# Altium integrated library Freescale Semiconductor DSC.IntLib: 124 symbols (part 2 of 7)
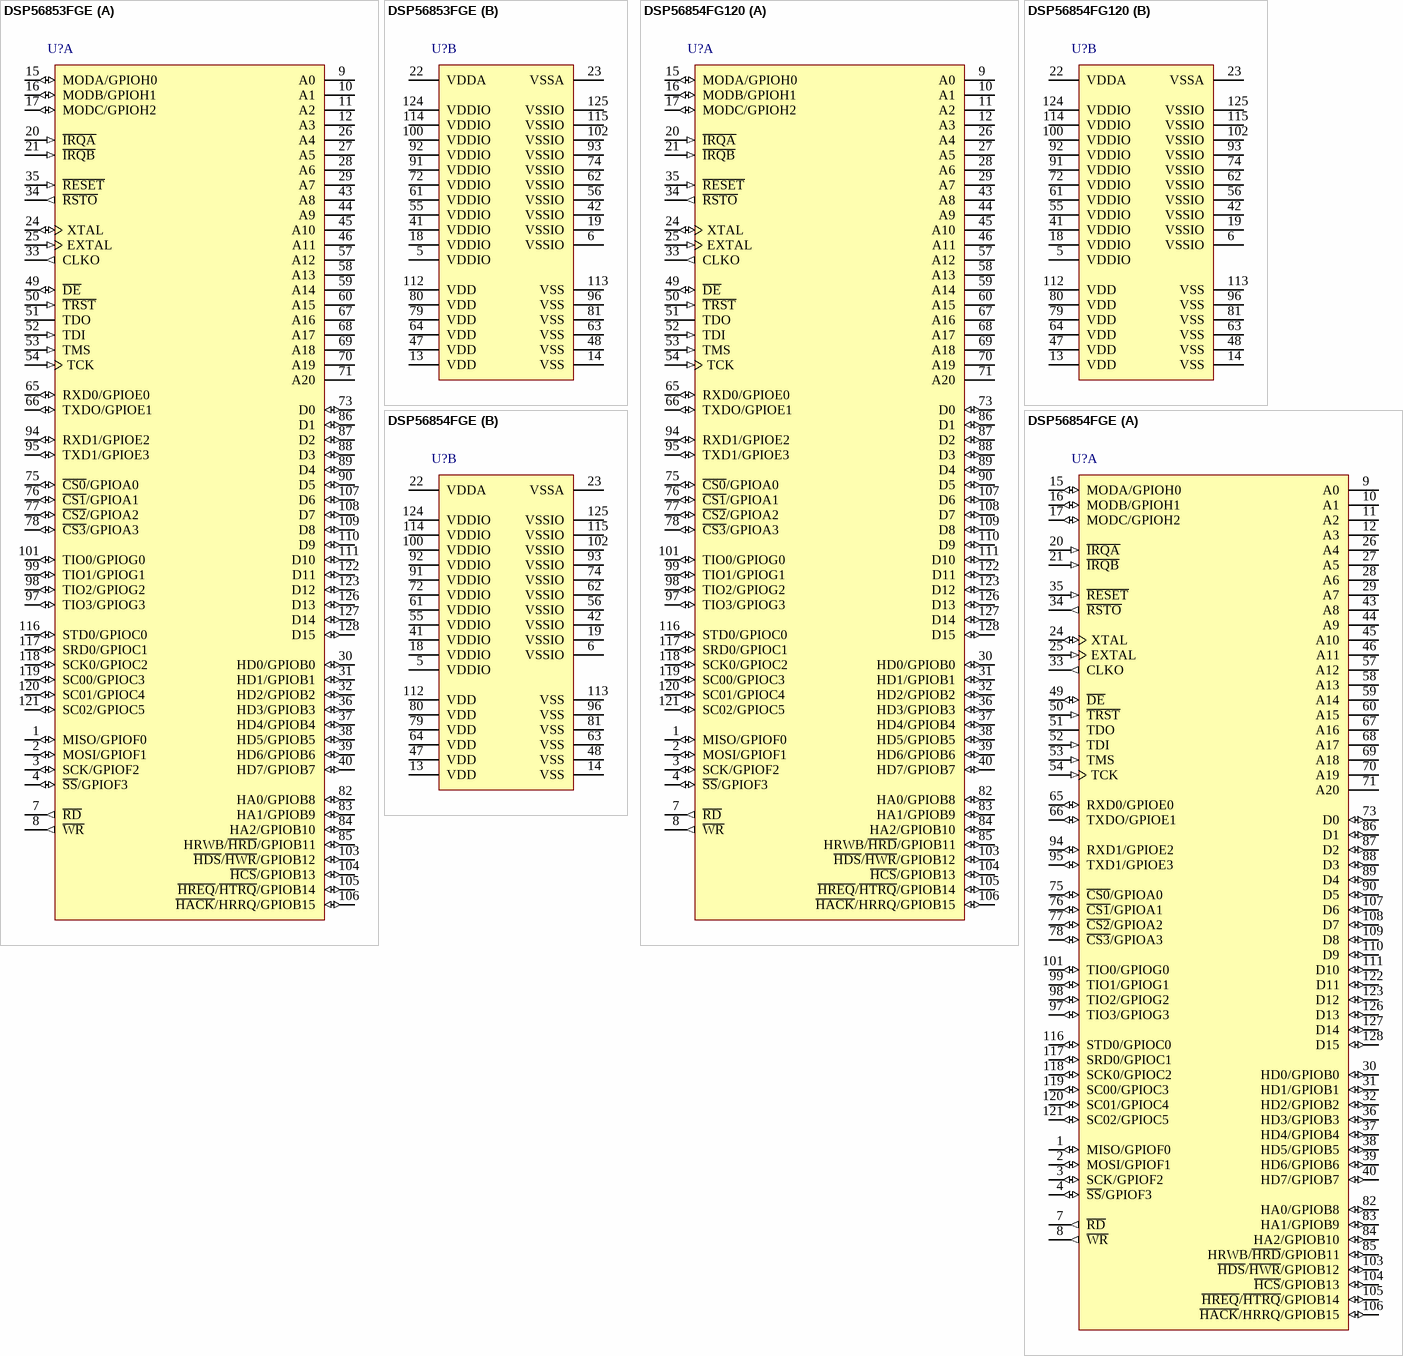
[diagram p35: symbols DSP56853FGE to DSP56854FGE]

## DSP56854FGE
designator U?
16-Bit Digital Signal Controller, 56800E Family, 120MHz, 16K Program SRAM, 16K Data SRAM, -40° to + 85°C, 128-Pin LQFP, ROHS; DatasheetVersion: rev6, Jan-2007; PackageVersion: 12/12/1994; PackageReference: 1129-01; PackageDescription: 128-Pin Thin Quad Flat Pack Rectangular 0.5 mm Pitch; ComponentLink1Description: Manufacturer URL; ComponentLink1URL: http://www.freescale.com/
footprint 1129-01_N (Thin QFP, 128-Leads, Body 20x14 mm, Pitch 0.5mm, IPC Medium Density)
footprint 1129-01_L (Thin QFP, 128-Leads, Body 20x14 mm, Pitch 0.5mm, IPC High Density)
footprint 1129-01_M (Thin QFP, 128-Leads, Body 20x14 mm, Pitch 0.5mm, IPC Low Density)
part A pins: 1 MISO/GPIOF0 (io), 2 MOSI/GPIOF1 (io), 3 SCK/GPIOF2 (io), 4 ~{SS}/GPIOF3 (io), 7 ~{RD} (out), 8 ~{WR} (out), 9 A0 (hiz), 10 A1 (hiz), 11 A2 (hiz), 12 A3 (hiz), 15 MODA/GPIOH0 (io), 16 MODB/GPIOH1 (io), 17 MODC/GPIOH2 (io), 20 ~{IRQA} (in), 21 ~{IRQB} (in), 24 XTAL (io), 25 EXTAL (in), 26 A4 (hiz), 27 A5 (hiz), 28 A6 (hiz), 29 A7 (hiz), 30 HD0/GPIOB0 (io), 31 HD1/GPIOB1 (io), 32 HD2/GPIOB2 (io), 33 CLKO (out), 34 ~{RSTO} (out), 35 ~{RESET} (in), 36 HD3/GPIOB3 (io), 37 HD4/GPIOB4 (io), 38 HD5/GPIOB5 (io), 39 HD6/GPIOB6 (io), 40 HD7/GPIOB7 (io), 43 A8 (hiz), 44 A9 (hiz), 45 A10 (hiz), 46 A11 (hiz), 49 ~{DE} (io), 50 ~{TRST} (in), 51 TDO (hiz), 52 TDI (in), 53 TMS (in), 54 TCK (in), 57 A12 (hiz), 58 A13 (hiz), 59 A14 (hiz), 60 A15 (hiz), 65 RXD0/GPIOE0 (io), 66 TXDO/GPIOE1 (io), 67 A16 (hiz), 68 A17 (hiz), 69 A18 (hiz), 70 A19 (hiz), 71 A20 (hiz), 73 D0 (io), 75 ~{CS0}/GPIOA0 (io), 76 ~{CS1}/GPIOA1 (io), 77 ~{CS2}/GPIOA2 (io), 78 ~{CS3}/GPIOA3 (io), 82 HA0/GPIOB8 (io), 83 HA1/GPIOB9 (io), 84 HA2/GPIOB10 (io), 85 HRWB/~{HRD}/GPIOB11 (io), 86 D1 (io), 87 D2 (io), 88 D3 (io), 89 D4 (io), 90 D5 (io), 94 RXD1/GPIOE2 (io), 95 TXD1/GPIOE3 (io), 97 TIO3/GPIOG3 (io), 98 TIO2/GPIOG2 (io), 99 TIO1/GPIOG1 (io), 101 TIO0/GPIOG0 (io), 103 ~{HDS}/~{HWR}/GPIOB12 (io), 104 ~{HCS}/GPIOB13 (io), 105 ~{HREQ}/~{HTRQ}/GPIOB14 (io), 106 ~{HACK}/HRRQ/GPIOB15 (io), 107 D6 (io), 108 D7 (io), 109 D8 (io), 110 D9 (io), 111 D10 (io), 116 STD0/GPIOC0 (io), 117 SRD0/GPIOC1 (io), 118 SCK0/GPIOC2 (io), 119 SC00/GPIOC3 (io), 120 SC01/GPIOC4 (io), 121 SC02/GPIOC5 (io), 122 D11 (io), 123 D12 (io), 126 D13 (io), 127 D14 (io), 128 D15 (io)
part B pins: 5 VDDIO (power), 6 VSSIO (power), 13 VDD (power), 14 VSS (power), 18 VDDIO (power), 19 VSSIO (power), 22 VDDA (power), 23 VSSA (power), 41 VDDIO (power), 42 VSSIO (power), 47 VDD (power), 48 VSS (power), 55 VDDIO (power), 56 VSSIO (power), 61 VDDIO (power), 62 VSSIO (power), 63 VSS (power), 64 VDD (power), 72 VDDIO (power), 74 VSSIO (power), 79 VDD (power), 80 VDD (power), 81 VSS (power), 91 VDDIO (power), 92 VDDIO (power), 93 VSSIO (power), 96 VSS (power), 100 VDDIO (power), 102 VSSIO (power), 112 VDD (power), 113 VSS (power), 114 VDDIO (power), 115 VSSIO (power), 124 VDDIO (power), 125 VSSIO (power)

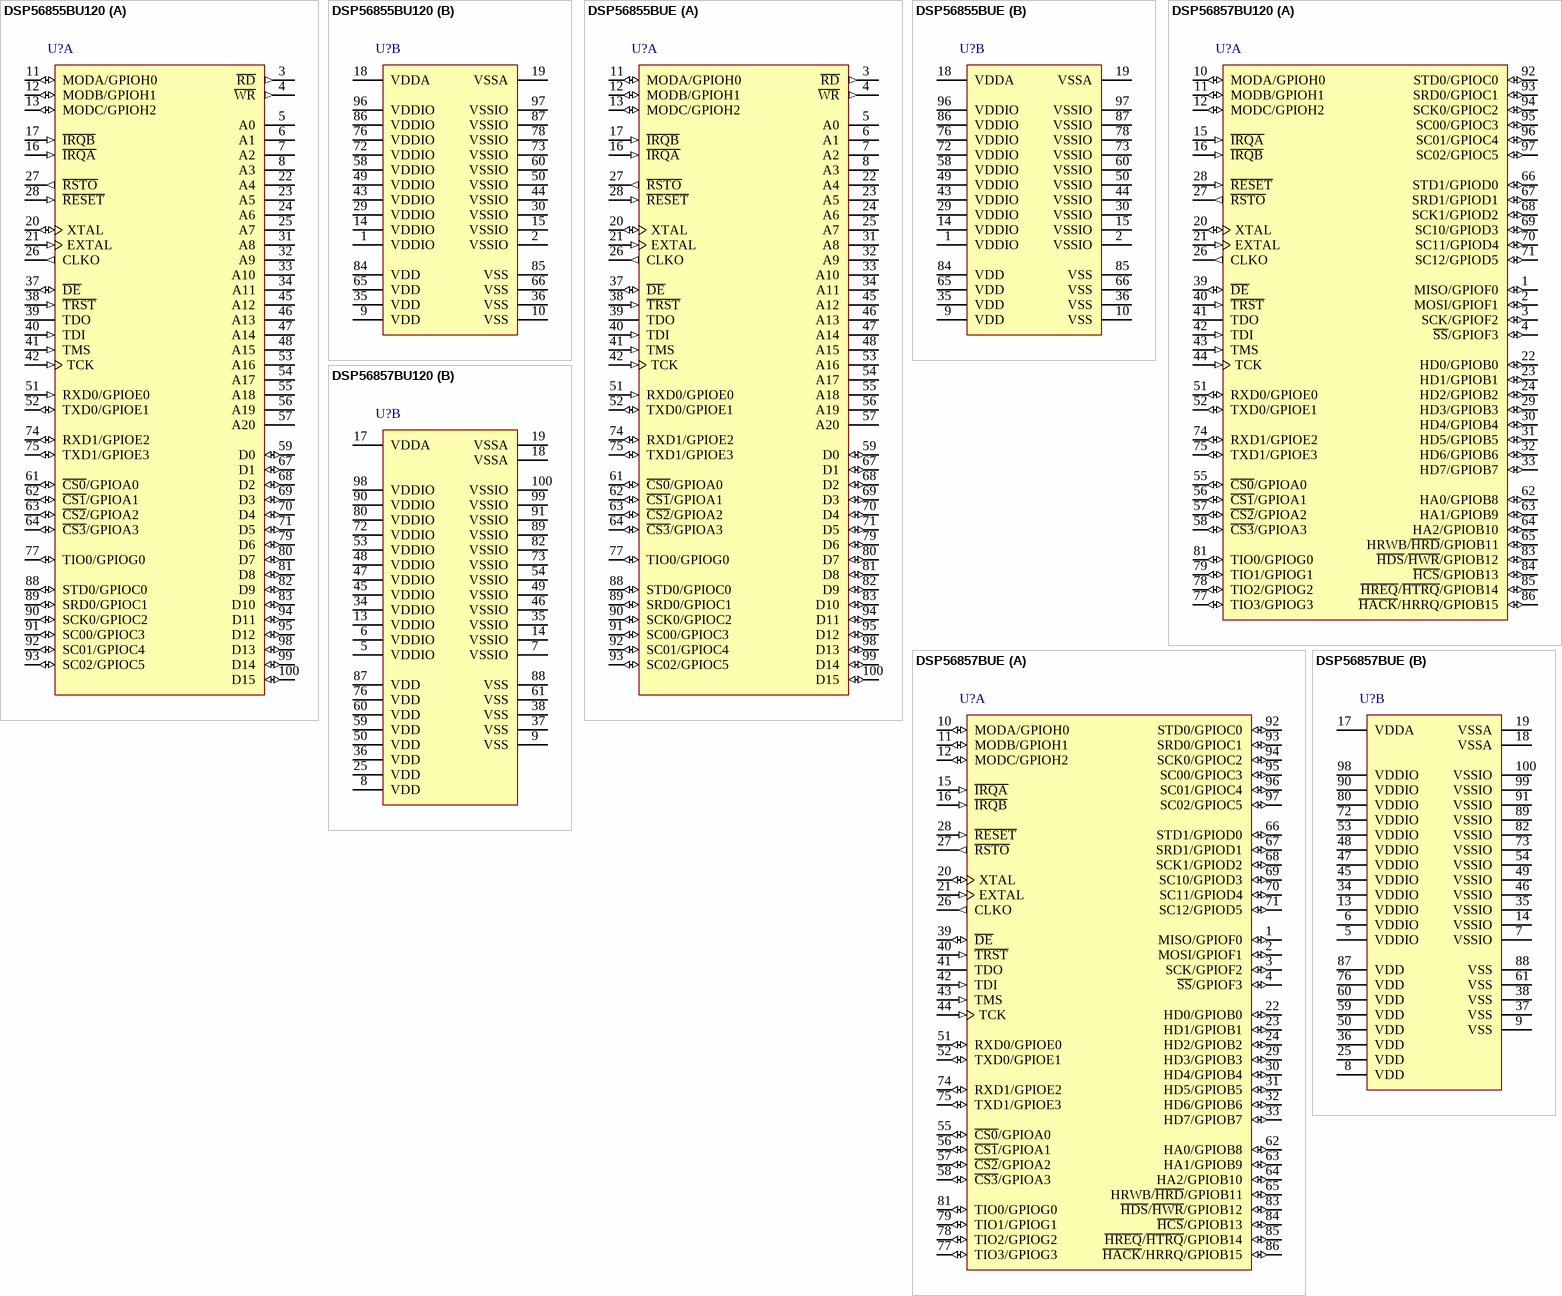
[diagram p6: symbols DSP56855BU120 to DSP56857BUE]

## DSP56855BU120
designator U?
16-Bit Digital Signal Controller, 56800E Family, 120MHz, 24K Program SRAM, 24K Data SRAM, -40° to + 85°C, 100-Pin LQFP; DatasheetVersion: rev6, Jan-2007; PackageVersion: rev4, Jan-2002; PackageReference: 842F-01; PackageDescription: 100-Pin Thin Quad Flat Pack 0.5 mm Pitch; ComponentLink1Description: Manufacturer URL; ComponentLink1URL: http://www.freescale.com/
footprint 842F-01_N (Thin QFP, 100-Leads, Body 14x14mm, Pitch 0.5mm, IPC Medium Density)
footprint 842F-01_L (Thin QFP, 100-Leads, Body 14x14mm, Pitch 0.5mm, IPC High Density)
footprint 842F-01_M (Thin QFP, 100-Leads, Body 14x14mm, Pitch 0.5mm, IPC Low Density)
part A pins: 3 ~{RD} (out), 4 ~{WR} (out), 5 A0 (hiz), 6 A1 (hiz), 7 A2 (hiz), 8 A3 (hiz), 11 MODA/GPIOH0 (io), 12 MODB/GPIOH1 (io), 13 MODC/GPIOH2 (io), 16 ~{IRQA} (in), 17 ~{IRQB} (in), 20 XTAL (io), 21 EXTAL (in), 22 A4 (hiz), 23 A5 (hiz), 24 A6 (hiz), 25 A7 (hiz), 26 CLKO (out), 27 ~{RSTO} (out), 28 ~{RESET} (in), 31 A8 (hiz), 32 A9 (hiz), 33 A10 (hiz), 34 A11 (hiz), 37 ~{DE} (io), 38 ~{TRST} (in), 39 TDO (hiz), 40 TDI (in), 41 TMS (in), 42 TCK (in), 45 A12 (hiz), 46 A13 (hiz), 47 A14 (hiz), 48 A15 (hiz), 51 RXD0/GPIOE0 (in), 52 TXD0/GPIOE1 (io), 53 A16 (hiz), 54 A17 (hiz), 55 A18 (hiz), 56 A19 (hiz), 57 A20 (hiz), 59 D0 (io), 61 ~{CS0}/GPIOA0 (io), 62 ~{CS1}/GPIOA1 (io), 63 ~{CS2}/GPIOA2 (io), 64 ~{CS3}/GPIOA3 (io), 67 D1 (io), 68 D2 (io), 69 D3 (io), 70 D4 (io), 71 D5 (io), 74 RXD1/GPIOE2 (io), 75 TXD1/GPIOE3 (io), 77 TIO0/GPIOG0 (io), 79 D6 (io), 80 D7 (io), 81 D8 (io), 82 D9 (io), 83 D10 (io), 88 STD0/GPIOC0 (io), 89 SRD0/GPIOC1 (io), 90 SCK0/GPIOC2 (io), 91 SC00/GPIOC3 (io), 92 SC01/GPIOC4 (io), 93 SC02/GPIOC5 (io), 94 D11 (io), 95 D12 (io), 98 D13 (io), 99 D14 (io), 100 D15 (io)
part B pins: 1 VDDIO (power), 2 VSSIO (power), 9 VDD (power), 10 VSS (power), 14 VDDIO (power), 15 VSSIO (power), 18 VDDA (power), 19 VSSA (power), 29 VDDIO (power), 30 VSSIO (power), 35 VDD (power), 36 VSS (power), 43 VDDIO (power), 44 VSSIO (power), 49 VDDIO (power), 50 VSSIO (power), 58 VDDIO (power), 60 VSSIO (power), 65 VDD (power), 66 VSS (power), 72 VDDIO (power), 73 VSSIO (power), 76 VDDIO (power), 78 VSSIO (power), 84 VDD (power), 85 VSS (power), 86 VDDIO (power), 87 VSSIO (power), 96 VDDIO (power), 97 VSSIO (power)

## DSP56855BUE
designator U?
16-Bit Digital Signal Controller, 56800E Family, 120MHz, 24K Program SRAM, 24K Data SRAM, -40° to + 85°C, 100-Pin LQFP, ROHS; DatasheetVersion: rev6, Jan-2007; PackageVersion: rev4, Jan-2002; PackageReference: 842F-01; PackageDescription: 100-Pin Thin Quad Flat Pack 0.5 mm Pitch; ComponentLink1Description: Manufacturer URL; ComponentLink1URL: http://www.freescale.com/
footprint 842F-01_N (Thin QFP, 100-Leads, Body 14x14mm, Pitch 0.5mm, IPC Medium Density)
footprint 842F-01_L (Thin QFP, 100-Leads, Body 14x14mm, Pitch 0.5mm, IPC High Density)
footprint 842F-01_M (Thin QFP, 100-Leads, Body 14x14mm, Pitch 0.5mm, IPC Low Density)
part A pins: 3 ~{RD} (out), 4 ~{WR} (out), 5 A0 (hiz), 6 A1 (hiz), 7 A2 (hiz), 8 A3 (hiz), 11 MODA/GPIOH0 (io), 12 MODB/GPIOH1 (io), 13 MODC/GPIOH2 (io), 16 ~{IRQA} (in), 17 ~{IRQB} (in), 20 XTAL (io), 21 EXTAL (in), 22 A4 (hiz), 23 A5 (hiz), 24 A6 (hiz), 25 A7 (hiz), 26 CLKO (out), 27 ~{RSTO} (out), 28 ~{RESET} (in), 31 A8 (hiz), 32 A9 (hiz), 33 A10 (hiz), 34 A11 (hiz), 37 ~{DE} (io), 38 ~{TRST} (in), 39 TDO (hiz), 40 TDI (in), 41 TMS (in), 42 TCK (in), 45 A12 (hiz), 46 A13 (hiz), 47 A14 (hiz), 48 A15 (hiz), 51 RXD0/GPIOE0 (in), 52 TXD0/GPIOE1 (io), 53 A16 (hiz), 54 A17 (hiz), 55 A18 (hiz), 56 A19 (hiz), 57 A20 (hiz), 59 D0 (io), 61 ~{CS0}/GPIOA0 (io), 62 ~{CS1}/GPIOA1 (io), 63 ~{CS2}/GPIOA2 (io), 64 ~{CS3}/GPIOA3 (io), 67 D1 (io), 68 D2 (io), 69 D3 (io), 70 D4 (io), 71 D5 (io), 74 RXD1/GPIOE2 (io), 75 TXD1/GPIOE3 (io), 77 TIO0/GPIOG0 (io), 79 D6 (io), 80 D7 (io), 81 D8 (io), 82 D9 (io), 83 D10 (io), 88 STD0/GPIOC0 (io), 89 SRD0/GPIOC1 (io), 90 SCK0/GPIOC2 (io), 91 SC00/GPIOC3 (io), 92 SC01/GPIOC4 (io), 93 SC02/GPIOC5 (io), 94 D11 (io), 95 D12 (io), 98 D13 (io), 99 D14 (io), 100 D15 (io)
part B pins: 1 VDDIO (power), 2 VSSIO (power), 9 VDD (power), 10 VSS (power), 14 VDDIO (power), 15 VSSIO (power), 18 VDDA (power), 19 VSSA (power), 29 VDDIO (power), 30 VSSIO (power), 35 VDD (power), 36 VSS (power), 43 VDDIO (power), 44 VSSIO (power), 49 VDDIO (power), 50 VSSIO (power), 58 VDDIO (power), 60 VSSIO (power), 65 VDD (power), 66 VSS (power), 72 VDDIO (power), 73 VSSIO (power), 76 VDDIO (power), 78 VSSIO (power), 84 VDD (power), 85 VSS (power), 86 VDDIO (power), 87 VSSIO (power), 96 VDDIO (power), 97 VSSIO (power)

## DSP56857BU120
designator U?
16-Bit Digital Signal Controller, 56800E Family, 120MHz, 40K Program SRAM, 24K Data SRAM, -40° to + 85°C, 100-Pin LQFP; DatasheetVersion: rev6, Jan-2007; PackageVersion: rev4, Jan-2002; PackageReference: 842F-01; PackageDescription: 100-Pin Thin Quad Flat Pack 0.5 mm Pitch; ComponentLink1Description: Manufacturer URL; ComponentLink1URL: http://www.freescale.com/
footprint 842F-01_N (Thin QFP, 100-Leads, Body 14x14mm, Pitch 0.5mm, IPC Medium Density)
footprint 842F-01_L (Thin QFP, 100-Leads, Body 14x14mm, Pitch 0.5mm, IPC High Density)
footprint 842F-01_M (Thin QFP, 100-Leads, Body 14x14mm, Pitch 0.5mm, IPC Low Density)
part A pins: 1 MISO/GPIOF0 (io), 2 MOSI/GPIOF1 (io), 3 SCK/GPIOF2 (io), 4 ~{SS}/GPIOF3 (io), 10 MODA/GPIOH0 (io), 11 MODB/GPIOH1 (io), 12 MODC/GPIOH2 (io), 15 ~{IRQA} (in), 16 ~{IRQB} (in), 20 XTAL (io), 21 EXTAL (in), 22 HD0/GPIOB0 (io), 23 HD1/GPIOB1 (io), 24 HD2/GPIOB2 (io), 26 CLKO (out), 27 ~{RSTO} (out), 28 ~{RESET} (in), 29 HD3/GPIOB3 (io), 30 HD4/GPIOB4 (io), 31 HD5/GPIOB5 (io), 32 HD6/GPIOB6 (io), 33 HD7/GPIOB7 (io), 39 ~{DE} (io), 40 ~{TRST} (in), 41 TDO (hiz), 42 TDI (in), 43 TMS (in), 44 TCK (in), 51 RXD0/GPIOE0 (io), 52 TXD0/GPIOE1 (io), 55 ~{CS0}/GPIOA0 (io), 56 ~{CS1}/GPIOA1 (io), 57 ~{CS2}/GPIOA2 (io), 58 ~{CS3}/GPIOA3 (io), 62 HA0/GPIOB8 (io), 63 HA1/GPIOB9 (io), 64 HA2/GPIOB10 (io), 65 HRWB/~{HRD}/GPIOB11 (io), 66 STD1/GPIOD0 (io), 67 SRD1/GPIOD1 (io), 68 SCK1/GPIOD2 (io), 69 SC10/GPIOD3 (io), 70 SC11/GPIOD4 (io), 71 SC12/GPIOD5 (io), 74 RXD1/GPIOE2 (io), 75 TXD1/GPIOE3 (io), 77 TIO3/GPIOG3 (io), 78 TIO2/GPIOG2 (io), 79 TIO1/GPIOG1 (io), 81 TIO0/GPIOG0 (io), 83 ~{HDS}/~{HWR}/GPIOB12 (io), 84 ~{HCS}/GPIOB13 (io), 85 ~{HREQ}/~{HTRQ}/GPIOB14 (io), 86 ~{HACK}/HRRQ/GPIOB15 (io), 92 STD0/GPIOC0 (io), 93 SRD0/GPIOC1 (io), 94 SCK0/GPIOC2 (io), 95 SC00/GPIOC3 (io), 96 SC01/GPIOC4 (io), 97 SC02/GPIOC5 (io)
part B pins: 5 VDDIO (power), 6 VDDIO (power), 7 VSSIO (power), 8 VDD (power), 9 VSS (power), 13 VDDIO (power), 14 VSSIO (power), 17 VDDA (power), 18 VSSA (power), 19 VSSA (power), 25 VDD (power), 34 VDDIO (power), 35 VSSIO (power), 36 VDD (power), 37 VSS (power), 38 VSS (power), 45 VDDIO (power), 46 VSSIO (power), 47 VDDIO (power), 48 VDDIO (power), 49 VSSIO (power), 50 VDD (power), 53 VDDIO (power), 54 VSSIO (power), 59 VDD (power), 60 VDD (power), 61 VSS (power), 72 VDDIO (power), 73 VSSIO (power), 76 VDD (power), 80 VDDIO (power), 82 VSSIO (power), 87 VDD (power), 88 VSS (power), 89 VSSIO (power), 90 VDDIO (power), 91 VSSIO (power), 98 VDDIO (power), 99 VSSIO (power), 100 VSSIO (power)

## DSP56857BUE
designator U?
16-Bit Digital Signal Controller, 56800E Family, 120MHz, 40K Program SRAM, 24K Data SRAM, -40° to + 85°C, 100-Pin LQFP, ROHS; DatasheetVersion: rev6, Jan-2007; PackageVersion: rev4, Jan-2002; PackageReference: 842F-01; PackageDescription: 100-Pin Thin Quad Flat Pack 0.5 mm Pitch; ComponentLink1Description: Manufacturer URL; ComponentLink1URL: http://www.freescale.com/
footprint 842F-01_N (Thin QFP, 100-Leads, Body 14x14mm, Pitch 0.5mm, IPC Medium Density)
footprint 842F-01_L (Thin QFP, 100-Leads, Body 14x14mm, Pitch 0.5mm, IPC High Density)
footprint 842F-01_M (Thin QFP, 100-Leads, Body 14x14mm, Pitch 0.5mm, IPC Low Density)
part A pins: 1 MISO/GPIOF0 (io), 2 MOSI/GPIOF1 (io), 3 SCK/GPIOF2 (io), 4 ~{SS}/GPIOF3 (io), 10 MODA/GPIOH0 (io), 11 MODB/GPIOH1 (io), 12 MODC/GPIOH2 (io), 15 ~{IRQA} (in), 16 ~{IRQB} (in), 20 XTAL (io), 21 EXTAL (in), 22 HD0/GPIOB0 (io), 23 HD1/GPIOB1 (io), 24 HD2/GPIOB2 (io), 26 CLKO (out), 27 ~{RSTO} (out), 28 ~{RESET} (in), 29 HD3/GPIOB3 (io), 30 HD4/GPIOB4 (io), 31 HD5/GPIOB5 (io), 32 HD6/GPIOB6 (io), 33 HD7/GPIOB7 (io), 39 ~{DE} (io), 40 ~{TRST} (in), 41 TDO (hiz), 42 TDI (in), 43 TMS (in), 44 TCK (in), 51 RXD0/GPIOE0 (io), 52 TXD0/GPIOE1 (io), 55 ~{CS0}/GPIOA0 (io), 56 ~{CS1}/GPIOA1 (io), 57 ~{CS2}/GPIOA2 (io), 58 ~{CS3}/GPIOA3 (io), 62 HA0/GPIOB8 (io), 63 HA1/GPIOB9 (io), 64 HA2/GPIOB10 (io), 65 HRWB/~{HRD}/GPIOB11 (io), 66 STD1/GPIOD0 (io), 67 SRD1/GPIOD1 (io), 68 SCK1/GPIOD2 (io), 69 SC10/GPIOD3 (io), 70 SC11/GPIOD4 (io), 71 SC12/GPIOD5 (io), 74 RXD1/GPIOE2 (io), 75 TXD1/GPIOE3 (io), 77 TIO3/GPIOG3 (io), 78 TIO2/GPIOG2 (io), 79 TIO1/GPIOG1 (io), 81 TIO0/GPIOG0 (io), 83 ~{HDS}/~{HWR}/GPIOB12 (io), 84 ~{HCS}/GPIOB13 (io), 85 ~{HREQ}/~{HTRQ}/GPIOB14 (io), 86 ~{HACK}/HRRQ/GPIOB15 (io), 92 STD0/GPIOC0 (io), 93 SRD0/GPIOC1 (io), 94 SCK0/GPIOC2 (io), 95 SC00/GPIOC3 (io), 96 SC01/GPIOC4 (io), 97 SC02/GPIOC5 (io)
part B pins: 5 VDDIO (power), 6 VDDIO (power), 7 VSSIO (power), 8 VDD (power), 9 VSS (power), 13 VDDIO (power), 14 VSSIO (power), 17 VDDA (power), 18 VSSA (power), 19 VSSA (power), 25 VDD (power), 34 VDDIO (power), 35 VSSIO (power), 36 VDD (power), 37 VSS (power), 38 VSS (power), 45 VDDIO (power), 46 VSSIO (power), 47 VDDIO (power), 48 VDDIO (power), 49 VSSIO (power), 50 VDD (power), 53 VDDIO (power), 54 VSSIO (power), 59 VDD (power), 60 VDD (power), 61 VSS (power), 72 VDDIO (power), 73 VSSIO (power), 76 VDD (power), 80 VDDIO (power), 82 VSSIO (power), 87 VDD (power), 88 VSS (power), 89 VSSIO (power), 90 VDDIO (power), 91 VSSIO (power), 98 VDDIO (power), 99 VSSIO (power), 100 VSSIO (power)

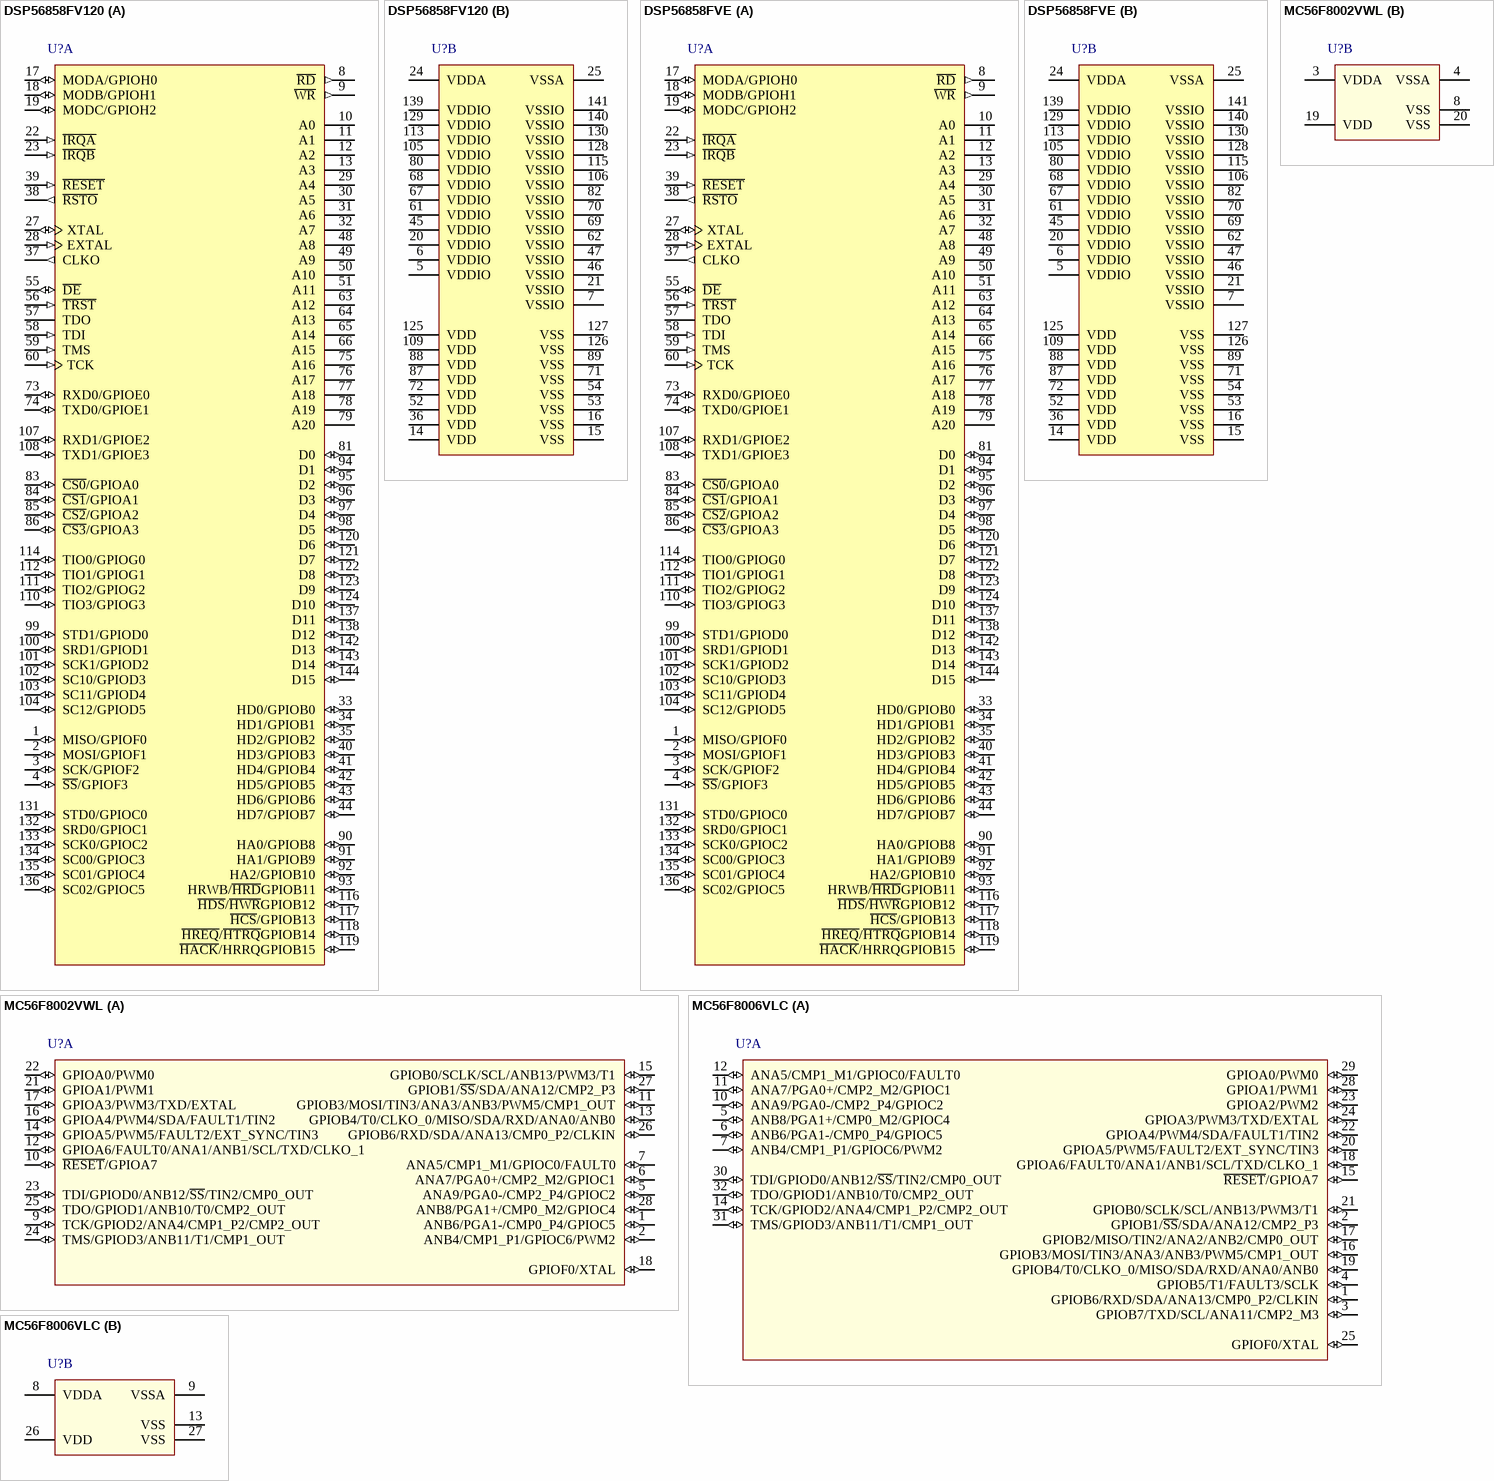
[diagram p7: symbols DSP56858FV120 to MC56F8006VLC]

## DSP56858FV120
designator U?
16-Bit Digital Signal Controller, 56800E Family, 120MHz, 40K Program SRAM, 24K Data SRAM, -40° to + 85°C, 144-Pin LQFP; DatasheetVersion: rev6, Jan-2007; PackageVersion: revG, Nov-2009; PackageReference: 918-03; PackageDescription: 144-Pin Thin Quad Flat Pack, 20 x 20 mm Body, 0.5 mm Pitch; ComponentLink1Description: Manufacturer URL; ComponentLink1URL: http://www.freescale.com/
footprint 918-03_N (Thin QFP, 144-Leads, Body 20x20mm, Pitch 0.5mm, IPC Medium Density)
footprint 918-03_L (Thin QFP, 144-Leads, Body 20x20mm, Pitch 0.5mm, IPC High Density)
footprint 918-03_M (Thin QFP, 144-Leads, Body 20x20mm, Pitch 0.5mm, IPC Low Density)
part A pins: 1 MISO/GPIOF0 (io), 2 MOSI/GPIOF1 (io), 3 SCK/GPIOF2 (io), 4 ~{SS}/GPIOF3 (io), 8 ~{RD} (out), 9 ~{WR} (out), 10 A0 (hiz), 11 A1 (hiz), 12 A2 (hiz), 13 A3 (hiz), 17 MODA/GPIOH0 (io), 18 MODB/GPIOH1 (io), 19 MODC/GPIOH2 (io), 22 ~{IRQA} (in), 23 ~{IRQB} (in), 27 XTAL (io), 28 EXTAL (in), 29 A4 (hiz), 30 A5 (hiz), 31 A6 (hiz), 32 A7 (hiz), 33 HD0/GPIOB0 (io), 34 HD1/GPIOB1 (io), 35 HD2/GPIOB2 (io), 37 CLKO (out), 38 ~{RSTO} (out), 39 ~{RESET} (in), 40 HD3/GPIOB3 (io), 41 HD4/GPIOB4 (io), 42 HD5/GPIOB5 (io), 43 HD6/GPIOB6 (io), 44 HD7/GPIOB7 (io), 48 A8 (hiz), 49 A9 (hiz), 50 A10 (hiz), 51 A11 (hiz), 55 ~{DE} (io), 56 ~{TRST} (in), 57 TDO (hiz), 58 TDI (in), 59 TMS (in), 60 TCK (in), 63 A12 (hiz), 64 A13 (hiz), 65 A14 (hiz), 66 A15 (hiz), 73 RXD0/GPIOE0 (io), 74 TXD0/GPIOE1 (io), 75 A16 (hiz), 76 A17 (hiz), 77 A18 (hiz), 78 A19 (hiz), 79 A20 (hiz), 81 D0 (io), 83 ~{CS0}/GPIOA0 (io), 84 ~{CS1}/GPIOA1 (io), 85 ~{CS2}/GPIOA2 (io), 86 ~{CS3}/GPIOA3 (io), 90 HA0/GPIOB8 (io), 91 HA1/GPIOB9 (io), 92 HA2/GPIOB10 (io), 93 HRWB/~{HRD}GPIOB11 (io), 94 D1 (io), 95 D2 (io), 96 D3 (io), 97 D4 (io), 98 D5 (io), 99 STD1/GPIOD0 (io), 100 SRD1/GPIOD1 (io), 101 SCK1/GPIOD2 (io), 102 SC10/GPIOD3 (io), 103 SC11/GPIOD4 (io), 104 SC12/GPIOD5 (io), 107 RXD1/GPIOE2 (io), 108 TXD1/GPIOE3 (io), 110 TIO3/GPIOG3 (io), 111 TIO2/GPIOG2 (io), 112 TIO1/GPIOG1 (io), 114 TIO0/GPIOG0 (io), 116 ~{HDS}/~{HWR}GPIOB12 (io), 117 ~{HCS}/GPIOB13 (io), 118 ~{HREQ}/~{HTRQ}GPIOB14 (io), 119 ~{HACK}/HRRQGPIOB15 (io), 120 D6 (io), 121 D7 (io), 122 D8 (io), 123 D9 (io), 124 D10 (io), 131 STD0/GPIOC0 (io), 132 SRD0/GPIOC1 (io), 133 SCK0/GPIOC2 (io), 134 SC00/GPIOC3 (io), 135 SC01/GPIOC4 (io), 136 SC02/GPIOC5 (io), 137 D11 (io), 138 D12 (io), 142 D13 (io), 143 D14 (io), 144 D15 (io)
part B pins: 5 VDDIO (power), 6 VDDIO (power), 7 VSSIO (power), 14 VDD (power), 15 VSS (power), 16 VSS (power), 20 VDDIO (power), 21 VSSIO (power), 24 VDDA (power), 25 VSSA (power), 26 VSSA (power) hidden, 36 VDD (power), 45 VDDIO (power), 46 VSSIO (power), 47 VSSIO (power), 52 VDD (power), 53 VSS (power), 54 VSS (power), 61 VDDIO (power), 62 VSSIO (power), 67 VDDIO (power), 68 VDDIO (power), 69 VSSIO (power), 70 VSSIO (power), 71 VSS (power), 72 VDD (power), 80 VDDIO (power), 82 VSSIO (power), 87 VDD (power), 88 VDD (power), 89 VSS (power), 105 VDDIO (power), 106 VSSIO (power), 109 VDD (power), 113 VDDIO (power), 115 VSSIO (power), 125 VDD (power), 126 VSS (power), 127 VSS (power), 128 VSSIO (power), 129 VDDIO (power), 130 VSSIO (power), 139 VDDIO (power), 140 VSSIO (power), 141 VSSIO (power)

## DSP56858FVE
designator U?
16-Bit Digital Signal Controller, 56800E Family, 120MHz, 40K Program SRAM, 24K Data SRAM, -40° to + 85°C, 144-Pin LQFP, ROHS; DatasheetVersion: rev6, Jan-2007; PackageVersion: revG, Nov-2009; PackageReference: 918-03; PackageDescription: 144-Pin Thin Quad Flat Pack, 20 x 20 mm Body, 0.5 mm Pitch; ComponentLink1Description: Manufacturer URL; ComponentLink1URL: http://www.freescale.com/
footprint 918-03_N (Thin QFP, 144-Leads, Body 20x20mm, Pitch 0.5mm, IPC Medium Density)
footprint 918-03_L (Thin QFP, 144-Leads, Body 20x20mm, Pitch 0.5mm, IPC High Density)
footprint 918-03_M (Thin QFP, 144-Leads, Body 20x20mm, Pitch 0.5mm, IPC Low Density)
part A pins: 1 MISO/GPIOF0 (io), 2 MOSI/GPIOF1 (io), 3 SCK/GPIOF2 (io), 4 ~{SS}/GPIOF3 (io), 8 ~{RD} (out), 9 ~{WR} (out), 10 A0 (hiz), 11 A1 (hiz), 12 A2 (hiz), 13 A3 (hiz), 17 MODA/GPIOH0 (io), 18 MODB/GPIOH1 (io), 19 MODC/GPIOH2 (io), 22 ~{IRQA} (in), 23 ~{IRQB} (in), 27 XTAL (io), 28 EXTAL (in), 29 A4 (hiz), 30 A5 (hiz), 31 A6 (hiz), 32 A7 (hiz), 33 HD0/GPIOB0 (io), 34 HD1/GPIOB1 (io), 35 HD2/GPIOB2 (io), 37 CLKO (out), 38 ~{RSTO} (out), 39 ~{RESET} (in), 40 HD3/GPIOB3 (io), 41 HD4/GPIOB4 (io), 42 HD5/GPIOB5 (io), 43 HD6/GPIOB6 (io), 44 HD7/GPIOB7 (io), 48 A8 (hiz), 49 A9 (hiz), 50 A10 (hiz), 51 A11 (hiz), 55 ~{DE} (io), 56 ~{TRST} (in), 57 TDO (hiz), 58 TDI (in), 59 TMS (in), 60 TCK (in), 63 A12 (hiz), 64 A13 (hiz), 65 A14 (hiz), 66 A15 (hiz), 73 RXD0/GPIOE0 (io), 74 TXD0/GPIOE1 (io), 75 A16 (hiz), 76 A17 (hiz), 77 A18 (hiz), 78 A19 (hiz), 79 A20 (hiz), 81 D0 (io), 83 ~{CS0}/GPIOA0 (io), 84 ~{CS1}/GPIOA1 (io), 85 ~{CS2}/GPIOA2 (io), 86 ~{CS3}/GPIOA3 (io), 90 HA0/GPIOB8 (io), 91 HA1/GPIOB9 (io), 92 HA2/GPIOB10 (io), 93 HRWB/~{HRD}GPIOB11 (io), 94 D1 (io), 95 D2 (io), 96 D3 (io), 97 D4 (io), 98 D5 (io), 99 STD1/GPIOD0 (io), 100 SRD1/GPIOD1 (io), 101 SCK1/GPIOD2 (io), 102 SC10/GPIOD3 (io), 103 SC11/GPIOD4 (io), 104 SC12/GPIOD5 (io), 107 RXD1/GPIOE2 (io), 108 TXD1/GPIOE3 (io), 110 TIO3/GPIOG3 (io), 111 TIO2/GPIOG2 (io), 112 TIO1/GPIOG1 (io), 114 TIO0/GPIOG0 (io), 116 ~{HDS}/~{HWR}GPIOB12 (io), 117 ~{HCS}/GPIOB13 (io), 118 ~{HREQ}/~{HTRQ}GPIOB14 (io), 119 ~{HACK}/HRRQGPIOB15 (io), 120 D6 (io), 121 D7 (io), 122 D8 (io), 123 D9 (io), 124 D10 (io), 131 STD0/GPIOC0 (io), 132 SRD0/GPIOC1 (io), 133 SCK0/GPIOC2 (io), 134 SC00/GPIOC3 (io), 135 SC01/GPIOC4 (io), 136 SC02/GPIOC5 (io), 137 D11 (io), 138 D12 (io), 142 D13 (io), 143 D14 (io), 144 D15 (io)
part B pins: 5 VDDIO (power), 6 VDDIO (power), 7 VSSIO (power), 14 VDD (power), 15 VSS (power), 16 VSS (power), 20 VDDIO (power), 21 VSSIO (power), 24 VDDA (power), 25 VSSA (power), 26 VSSA (power) hidden, 36 VDD (power), 45 VDDIO (power), 46 VSSIO (power), 47 VSSIO (power), 52 VDD (power), 53 VSS (power), 54 VSS (power), 61 VDDIO (power), 62 VSSIO (power), 67 VDDIO (power), 68 VDDIO (power), 69 VSSIO (power), 70 VSSIO (power), 71 VSS (power), 72 VDD (power), 80 VDDIO (power), 82 VSSIO (power), 87 VDD (power), 88 VDD (power), 89 VSS (power), 105 VDDIO (power), 106 VSSIO (power), 109 VDD (power), 113 VDDIO (power), 115 VSSIO (power), 125 VDD (power), 126 VSS (power), 127 VSS (power), 128 VSSIO (power), 129 VDDIO (power), 130 VSSIO (power), 139 VDDIO (power), 140 VSSIO (power), 141 VSSIO (power)

## MC56F8002VWL
designator U?
16-Bit Digital Signal Controller, 56800E Family, 32MHz, 12KB Program Flash Memory, 2KB RAM, -40°C to 105°C, 28-Pin SOIC; DatasheetVersion: rev3, Feb-2011; PackageVersion: revG, Mar-2005; PackageReference: 751F-05; PackageDescription: SOIC, Wide Body, 28-Lead Case Outline; Code_JEDEC: MS-013-AE; ComponentLink1Description: Manufacturer URL; ComponentLink1URL: http://www.freescale.com/
footprint 751F-05_N (SOIC, 28-Leads, Body 17.9x7.5mm, Pitch 1.27mm, IPC Medium Density)
footprint 751F-05_L (SOIC, 28-Leads, Body 17.9x7.5mm, Pitch 1.27mm, IPC High Density)
footprint 751F-05_M (SOIC, 28-Leads, Body 17.9x7.5mm, Pitch 1.27mm, IPC Low Density)
part A pins: 1 ANB6/PGA1-/CMP0_P4/GPIOC5 (io), 2 ANB4/CMP1_P1/GPIOC6/PWM2 (io), 5 ANA9/PGA0-/CMP2_P4/GPIOC2 (io), 6 ANA7/PGA0+/CMP2_M2/GPIOC1 (io), 7 ANA5/CMP1_M1/GPIOC0/FAULT0 (io), 9 TCK/GPIOD2/ANA4/CMP1_P2/CMP2_OUT (io), 10 ~{RESET}/GPIOA7 (io), 11 GPIOB3/MOSI/TIN3/ANA3/ANB3/PWM5/CMP1_OUT (io), 12 GPIOA6/FAULT0/ANA1/ANB1/SCL/TXD/CLKO_1 (io), 13 GPIOB4/T0/CLKO_0/MISO/SDA/RXD/ANA0/ANB0 (io), 14 GPIOA5/PWM5/FAULT2/EXT_SYNC/TIN3 (io), 15 GPIOB0/SCLK/SCL/ANB13/PWM3/T1 (io), 16 GPIOA4/PWM4/SDA/FAULT1/TIN2 (io), 17 GPIOA3/PWM3/TXD/EXTAL (io), 18 GPIOF0/XTAL (io), 21 GPIOA1/PWM1 (io), 22 GPIOA0/PWM0 (io), 23 TDI/GPIOD0/ANB12/~{SS}/TIN2/CMP0_OUT (io), 24 TMS/GPIOD3/ANB11/T1/CMP1_OUT (io), 25 TDO/GPIOD1/ANB10/T0/CMP2_OUT (io), 26 GPIOB6/RXD/SDA/ANA13/CMP0_P2/CLKIN (io), 27 GPIOB1/~{SS}/SDA/ANA12/CMP2_P3 (io), 28 ANB8/PGA1+/CMP0_M2/GPIOC4 (io)
part B pins: 3 VDDA (power), 4 VSSA (power), 8 VSS (power), 19 VDD (power), 20 VSS (power)

## MC56F8006VLC
designator U?
16-Bit Digital Signal Controller, 56800E Family, 32MHz, 16KB Program Flash Memory, 2KB RAM, -40°C to 105°C, 32-Pin LQFP; DatasheetVersion: rev3, Feb-2011; PackageVersion: rev9, Jan-2007; PackageReference: 873A-03; PackageDescription: 32-Pin Thin Quad Flat Pack, 7 x 7 mm Body, 0.8 mm Pitch; ComponentLink1Description: Manufacturer URL; ComponentLink1URL: http://www.freescale.com/
footprint 873A-03_N (Thin QFP, 32-Leads, Body 7x7mm, Pitch 0.8mm, IPC Medium Density)
footprint 873A-03_L (Thin QFP, 32-Leads, Body 7x7mm, Pitch 0.8mm, IPC High Density)
footprint 873A-03_M (Thin QFP, 32-Leads, Body 7x7mm, Pitch 0.8mm, IPC Low Density)
part A pins: 1 GPIOB6/RXD/SDA/ANA13/CMP0_P2/CLKIN (io), 2 GPIOB1/~{SS}/SDA/ANA12/CMP2_P3 (io), 3 GPIOB7/TXD/SCL/ANA11/CMP2_M3 (io), 4 GPIOB5/T1/FAULT3/SCLK (io), 5 ANB8/PGA1+/CMP0_M2/GPIOC4 (io), 6 ANB6/PGA1-/CMP0_P4/GPIOC5 (io), 7 ANB4/CMP1_P1/GPIOC6/PWM2 (io), 10 ANA9/PGA0-/CMP2_P4/GPIOC2 (io), 11 ANA7/PGA0+/CMP2_M2/GPIOC1 (io), 12 ANA5/CMP1_M1/GPIOC0/FAULT0 (io), 14 TCK/GPIOD2/ANA4/CMP1_P2/CMP2_OUT (io), 15 ~{RESET}/GPIOA7 (io), 16 GPIOB3/MOSI/TIN3/ANA3/ANB3/PWM5/CMP1_OUT (io), 17 GPIOB2/MISO/TIN2/ANA2/ANB2/CMP0_OUT (io), 18 GPIOA6/FAULT0/ANA1/ANB1/SCL/TXD/CLKO_1 (io), 19 GPIOB4/T0/CLKO_0/MISO/SDA/RXD/ANA0/ANB0 (io), 20 GPIOA5/PWM5/FAULT2/EXT_SYNC/TIN3 (io), 21 GPIOB0/SCLK/SCL/ANB13/PWM3/T1 (io), 22 GPIOA4/PWM4/SDA/FAULT1/TIN2 (io), 23 GPIOA2/PWM2 (io), 24 GPIOA3/PWM3/TXD/EXTAL (io), 25 GPIOF0/XTAL (io), 28 GPIOA1/PWM1 (io), 29 GPIOA0/PWM0 (io), 30 TDI/GPIOD0/ANB12/~{SS}/TIN2/CMP0_OUT (io), 31 TMS/GPIOD3/ANB11/T1/CMP1_OUT (io), 32 TDO/GPIOD1/ANB10/T0/CMP2_OUT (io)
part B pins: 8 VDDA (power), 9 VSSA (power), 13 VSS (power), 26 VDD (power), 27 VSS (power)

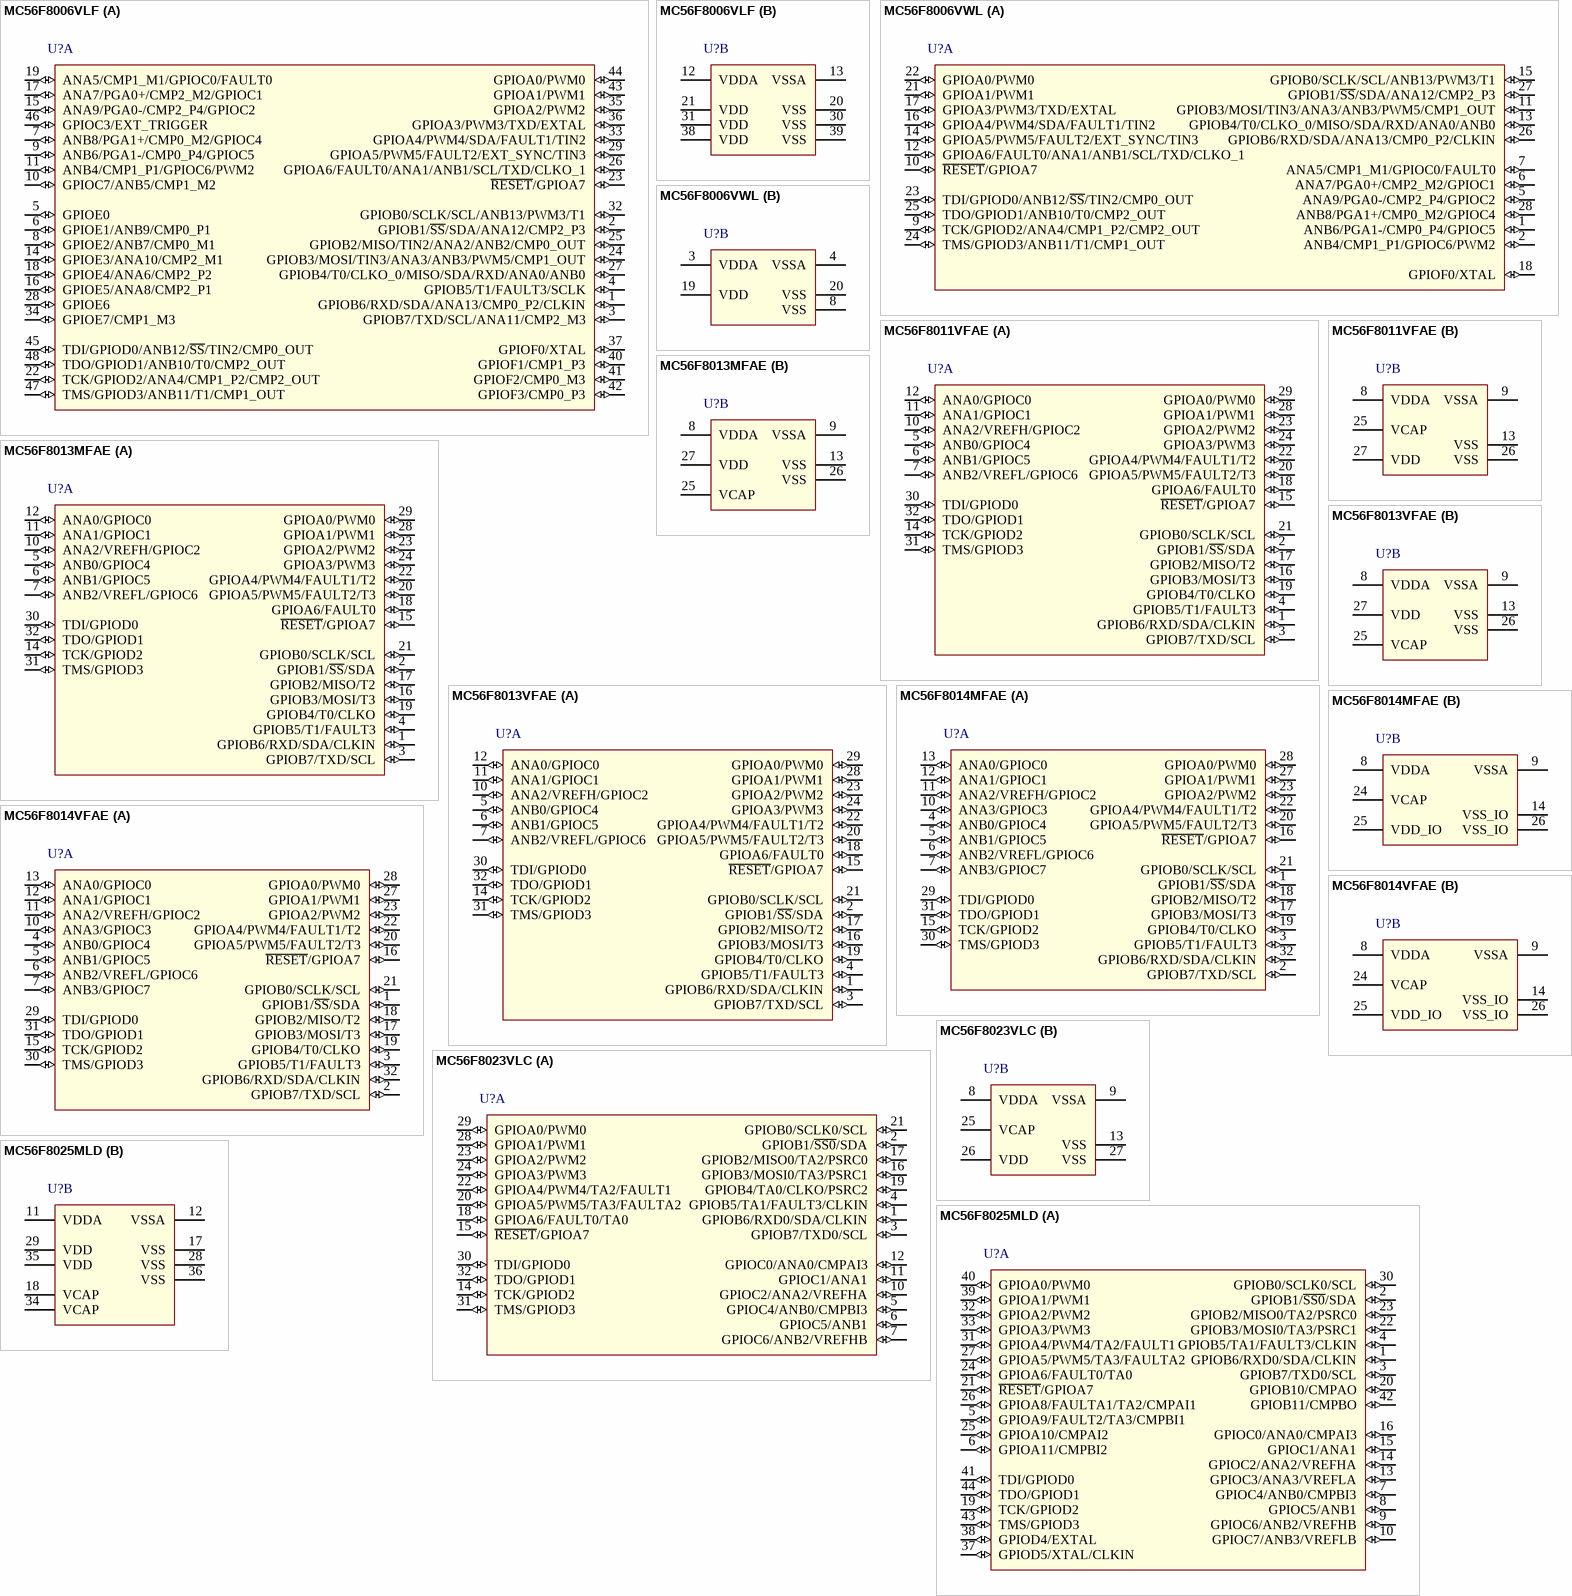
[diagram p8: symbols MC56F8006VLF to MC56F8025MLD]

## MC56F8006VLF
designator U?
16-Bit Digital Signal Controller, 56800E Family, 32MHz, 16KB Program Flash Memory, 2KB RAM, -40°C to 105°C, 48-Pin LQFP; DatasheetVersion: rev3, Feb-2011; PackageVersion: revG, Apr-2005; PackageReference: 932-03; PackageDescription: LQFP, 48 Lead, 7 x 7 x 1.4mm, 0.5mm Pitch; Code_JEDEC: MS-026-BBC; ComponentLink1Description: Manufacturer URL; ComponentLink1URL: http://www.freescale.com/
footprint 932-03_N (Thin QFP, 48-Leads, Body 7x7mm, Pitch 0.5mm, IPC Medium Density)
footprint 932-03_L (Thin QFP, 48-Leads, Body 7x7mm, Pitch 0.5mm, IPC High Density)
footprint 932-03_M (Thin QFP, 48-Leads, Body 7x7mm, Pitch 0.5mm, IPC Low Density)
part A pins: 1 GPIOB6/RXD/SDA/ANA13/CMP0_P2/CLKIN (io), 2 GPIOB1/~{SS}/SDA/ANA12/CMP2_P3 (io), 3 GPIOB7/TXD/SCL/ANA11/CMP2_M3 (io), 4 GPIOB5/T1/FAULT3/SCLK (io), 5 GPIOE0 (io), 6 GPIOE1/ANB9/CMP0_P1 (io), 7 ANB8/PGA1+/CMP0_M2/GPIOC4 (io), 8 GPIOE2/ANB7/CMP0_M1 (io), 9 ANB6/PGA1-/CMP0_P4/GPIOC5 (io), 10 GPIOC7/ANB5/CMP1_M2 (io), 11 ANB4/CMP1_P1/GPIOC6/PWM2 (io), 14 GPIOE3/ANA10/CMP2_M1 (io), 15 ANA9/PGA0-/CMP2_P4/GPIOC2 (io), 16 GPIOE5/ANA8/CMP2_P1 (io), 17 ANA7/PGA0+/CMP2_M2/GPIOC1 (io), 18 GPIOE4/ANA6/CMP2_P2 (io), 19 ANA5/CMP1_M1/GPIOC0/FAULT0 (io), 22 TCK/GPIOD2/ANA4/CMP1_P2/CMP2_OUT (io), 23 ~{RESET}/GPIOA7 (io), 24 GPIOB3/MOSI/TIN3/ANA3/ANB3/PWM5/CMP1_OUT (io), 25 GPIOB2/MISO/TIN2/ANA2/ANB2/CMP0_OUT (io), 26 GPIOA6/FAULT0/ANA1/ANB1/SCL/TXD/CLKO_1 (io), 27 GPIOB4/T0/CLKO_0/MISO/SDA/RXD/ANA0/ANB0 (io), 28 GPIOE6 (io), 29 GPIOA5/PWM5/FAULT2/EXT_SYNC/TIN3 (io), 32 GPIOB0/SCLK/SCL/ANB13/PWM3/T1 (io), 33 GPIOA4/PWM4/SDA/FAULT1/TIN2 (io), 34 GPIOE7/CMP1_M3 (io), 35 GPIOA2/PWM2 (io), 36 GPIOA3/PWM3/TXD/EXTAL (io), 37 GPIOF0/XTAL (io), 40 GPIOF1/CMP1_P3 (io), 41 GPIOF2/CMP0_M3 (io), 42 GPIOF3/CMP0_P3 (io), 43 GPIOA1/PWM1 (io), 44 GPIOA0/PWM0 (io), 45 TDI/GPIOD0/ANB12/~{SS}/TIN2/CMP0_OUT (io), 46 GPIOC3/EXT_TRIGGER (io), 47 TMS/GPIOD3/ANB11/T1/CMP1_OUT (io), 48 TDO/GPIOD1/ANB10/T0/CMP2_OUT (io)
part B pins: 12 VDDA (power), 13 VSSA (power), 20 VSS (power), 21 VDD (power), 30 VSS (power), 31 VDD (power), 38 VDD (power), 39 VSS (power)

## MC56F8006VWL
designator U?
16-Bit Digital Signal Controller, 56800E Family, 32MHz, 16KB Program Flash Memory, 2KB RAM, -40°C to 105°C, 28-Pin SOIC; DatasheetVersion: rev3, Feb-2011; PackageVersion: revG, Mar-2005; PackageReference: 751F-05; PackageDescription: SOIC, Wide Body, 28-Lead Case Outline; Code_JEDEC: MS-013-AE; ComponentLink1Description: Manufacturer URL; ComponentLink1URL: http://www.freescale.com/
footprint 751F-05_N (SOIC, 28-Leads, Body 17.9x7.5mm, Pitch 1.27mm, IPC Medium Density)
footprint 751F-05_L (SOIC, 28-Leads, Body 17.9x7.5mm, Pitch 1.27mm, IPC High Density)
footprint 751F-05_M (SOIC, 28-Leads, Body 17.9x7.5mm, Pitch 1.27mm, IPC Low Density)
part A pins: 1 ANB6/PGA1-/CMP0_P4/GPIOC5 (io), 2 ANB4/CMP1_P1/GPIOC6/PWM2 (io), 5 ANA9/PGA0-/CMP2_P4/GPIOC2 (io), 6 ANA7/PGA0+/CMP2_M2/GPIOC1 (io), 7 ANA5/CMP1_M1/GPIOC0/FAULT0 (io), 9 TCK/GPIOD2/ANA4/CMP1_P2/CMP2_OUT (io), 10 ~{RESET}/GPIOA7 (io), 11 GPIOB3/MOSI/TIN3/ANA3/ANB3/PWM5/CMP1_OUT (io), 12 GPIOA6/FAULT0/ANA1/ANB1/SCL/TXD/CLKO_1 (io), 13 GPIOB4/T0/CLKO_0/MISO/SDA/RXD/ANA0/ANB0 (io), 14 GPIOA5/PWM5/FAULT2/EXT_SYNC/TIN3 (io), 15 GPIOB0/SCLK/SCL/ANB13/PWM3/T1 (io), 16 GPIOA4/PWM4/SDA/FAULT1/TIN2 (io), 17 GPIOA3/PWM3/TXD/EXTAL (io), 18 GPIOF0/XTAL (io), 21 GPIOA1/PWM1 (io), 22 GPIOA0/PWM0 (io), 23 TDI/GPIOD0/ANB12/~{SS}/TIN2/CMP0_OUT (io), 24 TMS/GPIOD3/ANB11/T1/CMP1_OUT (io), 25 TDO/GPIOD1/ANB10/T0/CMP2_OUT (io), 26 GPIOB6/RXD/SDA/ANA13/CMP0_P2/CLKIN (io), 27 GPIOB1/~{SS}/SDA/ANA12/CMP2_P3 (io), 28 ANB8/PGA1+/CMP0_M2/GPIOC4 (io)
part B pins: 3 VDDA (power), 4 VSSA (power), 8 VSS (power), 19 VDD (power), 20 VSS (power)

## MC56F8011VFAE
designator U?
16-Bit Digital Signal Controller, 56800E Family, 32MHz, 12KB Program Flash Memory, 2KB RAM, -40°C to 105°C, 32-Pin LQFP; DatasheetVersion: rev12, May-2008; PackageVersion: rev9, Jan-2007; PackageReference: 873A-03; PackageDescription: 32-Pin Thin Quad Flat Pack, 7 x 7 mm Body, 0.8 mm Pitch; ComponentLink1Description: Manufacturer URL; ComponentLink1URL: http://www.freescale.com/
footprint 873A-03_N (Thin QFP, 32-Leads, Body 7x7mm, Pitch 0.8mm, IPC Medium Density)
footprint 873A-03_L (Thin QFP, 32-Leads, Body 7x7mm, Pitch 0.8mm, IPC High Density)
footprint 873A-03_M (Thin QFP, 32-Leads, Body 7x7mm, Pitch 0.8mm, IPC Low Density)
part A pins: 1 GPIOB6/RXD/SDA/CLKIN (io), 2 GPIOB1/~{SS}/SDA (io), 3 GPIOB7/TXD/SCL (io), 4 GPIOB5/T1/FAULT3 (io), 5 ANB0/GPIOC4 (io), 6 ANB1/GPIOC5 (io), 7 ANB2/VREFL/GPIOC6 (io), 10 ANA2/VREFH/GPIOC2 (io), 11 ANA1/GPIOC1 (io), 12 ANA0/GPIOC0 (io), 14 TCK/GPIOD2 (io), 15 ~{RESET}/GPIOA7 (io), 16 GPIOB3/MOSI/T3 (io), 17 GPIOB2/MISO/T2 (io), 18 GPIOA6/FAULT0 (io), 19 GPIOB4/T0/CLKO (io), 20 GPIOA5/PWM5/FAULT2/T3 (io), 21 GPIOB0/SCLK/SCL (io), 22 GPIOA4/PWM4/FAULT1/T2 (io), 23 GPIOA2/PWM2 (io), 24 GPIOA3/PWM3 (io), 28 GPIOA1/PWM1 (io), 29 GPIOA0/PWM0 (io), 30 TDI/GPIOD0 (io), 31 TMS/GPIOD3 (io), 32 TDO/GPIOD1 (io)
part B pins: 8 VDDA (power), 9 VSSA (power), 13 VSS (power), 25 VCAP (power), 26 VSS (power), 27 VDD (power)

## MC56F8013MFAE
designator U?
16-Bit Digital Signal Controller, 56800E Family, 32MHz, 16KB Program Flash Memory, 4KB RAM, -40°C to 125°C, 32-Pin LQFP; DatasheetVersion: rev12, May-2008; PackageVersion: rev9, Jan-2007; PackageReference: 873A-03; PackageDescription: 32-Pin Thin Quad Flat Pack, 7 x 7 mm Body, 0.8 mm Pitch; ComponentLink1Description: Manufacturer URL; ComponentLink1URL: http://www.freescale.com/
footprint 873A-03_N (Thin QFP, 32-Leads, Body 7x7mm, Pitch 0.8mm, IPC Medium Density)
footprint 873A-03_L (Thin QFP, 32-Leads, Body 7x7mm, Pitch 0.8mm, IPC High Density)
footprint 873A-03_M (Thin QFP, 32-Leads, Body 7x7mm, Pitch 0.8mm, IPC Low Density)
part A pins: 1 GPIOB6/RXD/SDA/CLKIN (io), 2 GPIOB1/~{SS}/SDA (io), 3 GPIOB7/TXD/SCL (io), 4 GPIOB5/T1/FAULT3 (io), 5 ANB0/GPIOC4 (io), 6 ANB1/GPIOC5 (io), 7 ANB2/VREFL/GPIOC6 (io), 10 ANA2/VREFH/GPIOC2 (io), 11 ANA1/GPIOC1 (io), 12 ANA0/GPIOC0 (io), 14 TCK/GPIOD2 (io), 15 ~{RESET}/GPIOA7 (io), 16 GPIOB3/MOSI/T3 (io), 17 GPIOB2/MISO/T2 (io), 18 GPIOA6/FAULT0 (io), 19 GPIOB4/T0/CLKO (io), 20 GPIOA5/PWM5/FAULT2/T3 (io), 21 GPIOB0/SCLK/SCL (io), 22 GPIOA4/PWM4/FAULT1/T2 (io), 23 GPIOA2/PWM2 (io), 24 GPIOA3/PWM3 (io), 28 GPIOA1/PWM1 (io), 29 GPIOA0/PWM0 (io), 30 TDI/GPIOD0 (io), 31 TMS/GPIOD3 (io), 32 TDO/GPIOD1 (io)
part B pins: 8 VDDA (power), 9 VSSA (power), 13 VSS (power), 25 VCAP (power), 26 VSS (power), 27 VDD (power)

## MC56F8013VFAE
designator U?
16-Bit Digital Signal Controller, 56800E Family, 32MHz, 16KB Program Flash Memory, 4KB RAM, -40°C to 105°C, 32-Pin LQFP; DatasheetVersion: rev12, May-2008; PackageVersion: rev9, Jan-2007; PackageReference: 873A-03; PackageDescription: 32-Pin Thin Quad Flat Pack, 7 x 7 mm Body, 0.8 mm Pitch; ComponentLink1Description: Manufacturer URL; ComponentLink1URL: http://www.freescale.com/
footprint 873A-03_N (Thin QFP, 32-Leads, Body 7x7mm, Pitch 0.8mm, IPC Medium Density)
footprint 873A-03_L (Thin QFP, 32-Leads, Body 7x7mm, Pitch 0.8mm, IPC High Density)
footprint 873A-03_M (Thin QFP, 32-Leads, Body 7x7mm, Pitch 0.8mm, IPC Low Density)
part A pins: 1 GPIOB6/RXD/SDA/CLKIN (io), 2 GPIOB1/~{SS}/SDA (io), 3 GPIOB7/TXD/SCL (io), 4 GPIOB5/T1/FAULT3 (io), 5 ANB0/GPIOC4 (io), 6 ANB1/GPIOC5 (io), 7 ANB2/VREFL/GPIOC6 (io), 10 ANA2/VREFH/GPIOC2 (io), 11 ANA1/GPIOC1 (io), 12 ANA0/GPIOC0 (io), 14 TCK/GPIOD2 (io), 15 ~{RESET}/GPIOA7 (io), 16 GPIOB3/MOSI/T3 (io), 17 GPIOB2/MISO/T2 (io), 18 GPIOA6/FAULT0 (io), 19 GPIOB4/T0/CLKO (io), 20 GPIOA5/PWM5/FAULT2/T3 (io), 21 GPIOB0/SCLK/SCL (io), 22 GPIOA4/PWM4/FAULT1/T2 (io), 23 GPIOA2/PWM2 (io), 24 GPIOA3/PWM3 (io), 28 GPIOA1/PWM1 (io), 29 GPIOA0/PWM0 (io), 30 TDI/GPIOD0 (io), 31 TMS/GPIOD3 (io), 32 TDO/GPIOD1 (io)
part B pins: 8 VDDA (power), 9 VSSA (power), 13 VSS (power), 25 VCAP (power), 26 VSS (power), 27 VDD (power)

## MC56F8014MFAE
designator U?
16-Bit Digital Signal Controller, 56800E Family, 32MHz, 16KB Program Flash Memory, 4KB RAM, -40°C to 125°C, 32-Pin LQFP; DatasheetVersion: rev11, May-2008; PackageVersion: rev9, Jan-2007; PackageReference: 873A-03; PackageDescription: 32-Pin Thin Quad Flat Pack, 7 x 7 mm Body, 0.8 mm Pitch; ComponentLink1Description: Manufacturer URL; ComponentLink1URL: http://www.freescale.com/
footprint 873A-03_N (Thin QFP, 32-Leads, Body 7x7mm, Pitch 0.8mm, IPC Medium Density)
footprint 873A-03_L (Thin QFP, 32-Leads, Body 7x7mm, Pitch 0.8mm, IPC High Density)
footprint 873A-03_M (Thin QFP, 32-Leads, Body 7x7mm, Pitch 0.8mm, IPC Low Density)
part A pins: 1 GPIOB1/~{SS}/SDA (io), 2 GPIOB7/TXD/SCL (io), 3 GPIOB5/T1/FAULT3 (io), 4 ANB0/GPIOC4 (io), 5 ANB1/GPIOC5 (io), 6 ANB2/VREFL/GPIOC6 (io), 7 ANB3/GPIOC7 (io), 10 ANA3/GPIOC3 (io), 11 ANA2/VREFH/GPIOC2 (io), 12 ANA1/GPIOC1 (io), 13 ANA0/GPIOC0 (io), 15 TCK/GPIOD2 (io), 16 ~{RESET}/GPIOA7 (io), 17 GPIOB3/MOSI/T3 (io), 18 GPIOB2/MISO/T2 (io), 19 GPIOB4/T0/CLKO (io), 20 GPIOA5/PWM5/FAULT2/T3 (io), 21 GPIOB0/SCLK/SCL (io), 22 GPIOA4/PWM4/FAULT1/T2 (io), 23 GPIOA2/PWM2 (io), 27 GPIOA1/PWM1 (io), 28 GPIOA0/PWM0 (io), 29 TDI/GPIOD0 (io), 30 TMS/GPIOD3 (io), 31 TDO/GPIOD1 (io), 32 GPIOB6/RXD/SDA/CLKIN (io)
part B pins: 8 VDDA (power), 9 VSSA (power), 14 VSS_IO (power), 24 VCAP (power), 25 VDD_IO (power), 26 VSS_IO (power)

## MC56F8014VFAE
designator U?
16-Bit Digital Signal Controller, 56800E Family, 32MHz, 16KB Program Flash Memory, 4KB RAM, -40°C to 105°C, 32-Pin LQFP; DatasheetVersion: rev11, May-2008; PackageVersion: rev9, Jan-2007; PackageReference: 873A-03; PackageDescription: 32-Pin Thin Quad Flat Pack, 7 x 7 mm Body, 0.8 mm Pitch; ComponentLink1Description: Manufacturer URL; ComponentLink1URL: http://www.freescale.com/
footprint 873A-03_N (Thin QFP, 32-Leads, Body 7x7mm, Pitch 0.8mm, IPC Medium Density)
footprint 873A-03_L (Thin QFP, 32-Leads, Body 7x7mm, Pitch 0.8mm, IPC High Density)
footprint 873A-03_M (Thin QFP, 32-Leads, Body 7x7mm, Pitch 0.8mm, IPC Low Density)
part A pins: 1 GPIOB1/~{SS}/SDA (io), 2 GPIOB7/TXD/SCL (io), 3 GPIOB5/T1/FAULT3 (io), 4 ANB0/GPIOC4 (io), 5 ANB1/GPIOC5 (io), 6 ANB2/VREFL/GPIOC6 (io), 7 ANB3/GPIOC7 (io), 10 ANA3/GPIOC3 (io), 11 ANA2/VREFH/GPIOC2 (io), 12 ANA1/GPIOC1 (io), 13 ANA0/GPIOC0 (io), 15 TCK/GPIOD2 (io), 16 ~{RESET}/GPIOA7 (io), 17 GPIOB3/MOSI/T3 (io), 18 GPIOB2/MISO/T2 (io), 19 GPIOB4/T0/CLKO (io), 20 GPIOA5/PWM5/FAULT2/T3 (io), 21 GPIOB0/SCLK/SCL (io), 22 GPIOA4/PWM4/FAULT1/T2 (io), 23 GPIOA2/PWM2 (io), 27 GPIOA1/PWM1 (io), 28 GPIOA0/PWM0 (io), 29 TDI/GPIOD0 (io), 30 TMS/GPIOD3 (io), 31 TDO/GPIOD1 (io), 32 GPIOB6/RXD/SDA/CLKIN (io)
part B pins: 8 VDDA (power), 9 VSSA (power), 14 VSS_IO (power), 24 VCAP (power), 25 VDD_IO (power), 26 VSS_IO (power)

## MC56F8023VLC
designator U?
16-Bit Digital Signal Controller, 56800E Family, 32MHz, 32KB Program Flash Memory, 4KB RAM, -40°C to 105°C, 32-Pin LQFP; DatasheetVersion: rev6, Feb-2010; PackageVersion: rev9, Jan-2007; PackageReference: 873A-03; PackageDescription: 32-Pin Thin Quad Flat Pack, 7 x 7 mm Body, 0.8 mm Pitch; ComponentLink1Description: Manufacturer URL; ComponentLink1URL: http://www.freescale.com/
footprint 873A-03_N (Thin QFP, 32-Leads, Body 7x7mm, Pitch 0.8mm, IPC Medium Density)
footprint 873A-03_L (Thin QFP, 32-Leads, Body 7x7mm, Pitch 0.8mm, IPC High Density)
footprint 873A-03_M (Thin QFP, 32-Leads, Body 7x7mm, Pitch 0.8mm, IPC Low Density)
part A pins: 1 GPIOB6/RXD0/SDA/CLKIN (io), 2 GPIOB1/~{SS0}/SDA (io), 3 GPIOB7/TXD0/SCL (io), 4 GPIOB5/TA1/FAULT3/CLKIN (io), 5 GPIOC4/ANB0/CMPBI3 (io), 6 GPIOC5/ANB1 (io), 7 GPIOC6/ANB2/VREFHB (io), 10 GPIOC2/ANA2/VREFHA (io), 11 GPIOC1/ANA1 (io), 12 GPIOC0/ANA0/CMPAI3 (io), 14 TCK/GPIOD2 (io), 15 ~{RESET}/GPIOA7 (io), 16 GPIOB3/MOSI0/TA3/PSRC1 (io), 17 GPIOB2/MISO0/TA2/PSRC0 (io), 18 GPIOA6/FAULT0/TA0 (io), 19 GPIOB4/TA0/CLKO/PSRC2 (io), 20 GPIOA5/PWM5/TA3/FAULTA2 (io), 21 GPIOB0/SCLK0/SCL (io), 22 GPIOA4/PWM4/TA2/FAULT1 (io), 23 GPIOA2/PWM2 (io), 24 GPIOA3/PWM3 (io), 28 GPIOA1/PWM1 (io), 29 GPIOA0/PWM0 (io), 30 TDI/GPIOD0 (io), 31 TMS/GPIOD3 (io), 32 TDO/GPIOD1 (io)
part B pins: 8 VDDA (power), 9 VSSA (power), 13 VSS (power), 25 VCAP (power), 26 VDD (power), 27 VSS (power)

## MC56F8025MLD
designator U?
16-Bit Digital Signal Controller, 56800E Family, 32MHz, 32KB Program Flash Memory, 4KB RAM, -40°C to 125°C, 44-Pin LQFP; DatasheetVersion: rev6, Feb-2010; PackageVersion: rev3, Jun-2009; PackageReference: 824D-02; PackageDescription: 44-Pin Thin Quad Flat Pack, 10 x 10 mm Body, 0.8 mm Pitch; Code_JEDEC: MS-026-BCB; ComponentLink1Description: Manufacturer URL; ComponentLink1URL: http://www.freescale.com/
footprint 824D-02_N (Thin QFP, 44-Leads, Body 10x10mm, Pitch 0.8mm, IPC Medium Density)
footprint 824D-02_L (Thin QFP, 44-Leads, Body 10x10mm, Pitch 0.8mm, IPC High Density)
footprint 824D-02_M (Thin QFP, 44-Leads, Body 10x10mm, Pitch 0.8mm, IPC Low Density)
part A pins: 1 GPIOB6/RXD0/SDA/CLKIN (io), 2 GPIOB1/~{SS0}/SDA (io), 3 GPIOB7/TXD0/SCL (io), 4 GPIOB5/TA1/FAULT3/CLKIN (io), 5 GPIOA9/FAULT2/TA3/CMPBI1 (io), 6 GPIOA11/CMPBI2 (io), 7 GPIOC4/ANB0/CMPBI3 (io), 8 GPIOC5/ANB1 (io), 9 GPIOC6/ANB2/VREFHB (io), 10 GPIOC7/ANB3/VREFLB (io), 13 GPIOC3/ANA3/VREFLA (io), 14 GPIOC2/ANA2/VREFHA (io), 15 GPIOC1/ANA1 (io), 16 GPIOC0/ANA0/CMPAI3 (io), 19 TCK/GPIOD2 (io), 20 GPIOB10/CMPAO (io), 21 ~{RESET}/GPIOA7 (io), 22 GPIOB3/MOSI0/TA3/PSRC1 (io), 23 GPIOB2/MISO0/TA2/PSRC0 (io), 24 GPIOA6/FAULT0/TA0 (io), 25 GPIOA10/CMPAI2 (io), 26 GPIOA8/FAULTA1/TA2/CMPAI1 (io), 27 GPIOA5/PWM5/TA3/FAULTA2 (io), 30 GPIOB0/SCLK0/SCL (io), 31 GPIOA4/PWM4/TA2/FAULT1 (io), 32 GPIOA2/PWM2 (io), 33 GPIOA3/PWM3 (io), 37 GPIOD5/XTAL/CLKIN (io), 38 GPIOD4/EXTAL (io), 39 GPIOA1/PWM1 (io), 40 GPIOA0/PWM0 (io), 41 TDI/GPIOD0 (io), 42 GPIOB11/CMPBO (io), 43 TMS/GPIOD3 (io), 44 TDO/GPIOD1 (io)
part B pins: 11 VDDA (power), 12 VSSA (power), 17 VSS (power), 18 VCAP (power), 28 VSS (power), 29 VDD (power), 34 VCAP (power), 35 VDD (power), 36 VSS (power)

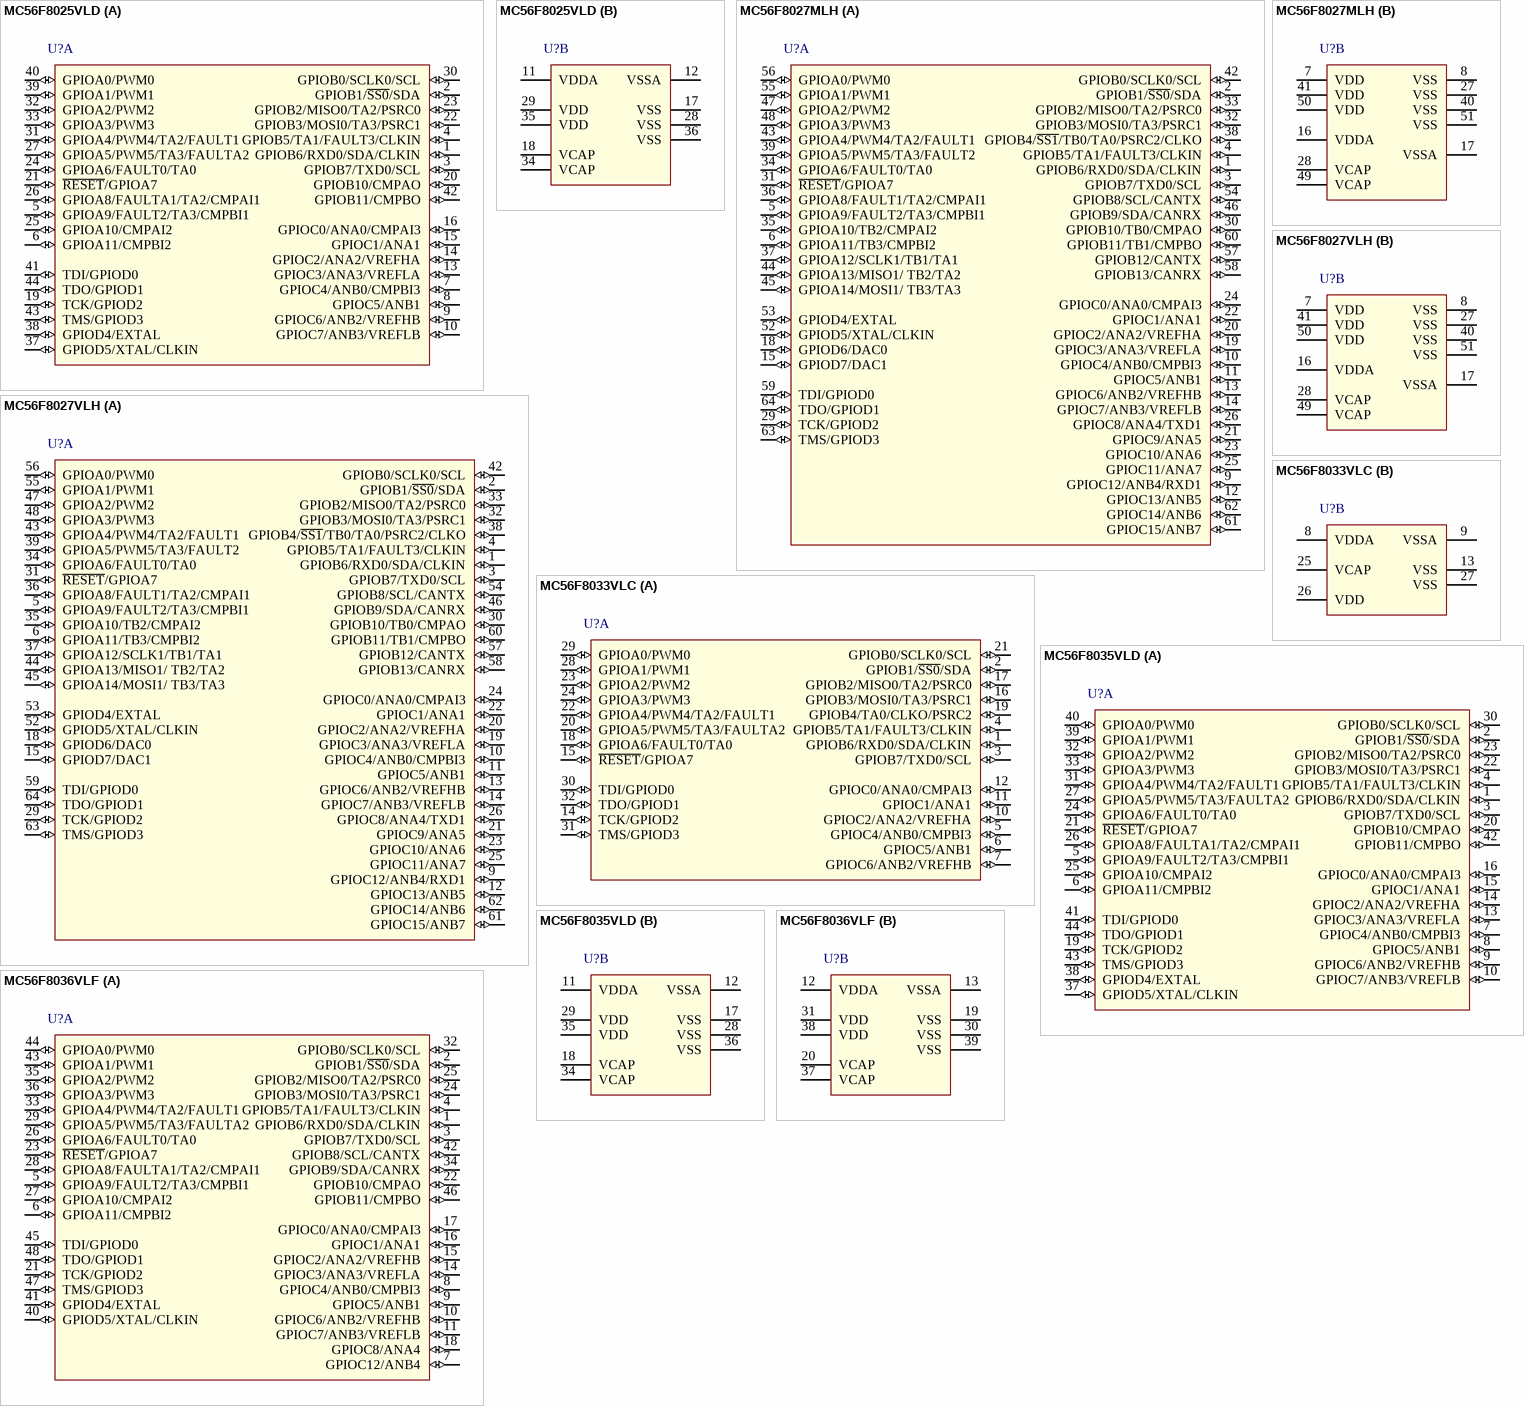
[diagram p9: symbols MC56F8025VLD to MC56F8036VLF]

## MC56F8025VLD
designator U?
16-Bit Digital Signal Controller, 56800E Family, 32MHz, 32KB Program Flash Memory, 4KB RAM, -40°C to 105°C, 44-Pin LQFP; DatasheetVersion: rev6, Feb-2010; PackageVersion: rev3, Jun-2009; PackageReference: 824D-02; PackageDescription: 44-Pin Thin Quad Flat Pack, 10 x 10 mm Body, 0.8 mm Pitch; Code_JEDEC: MS-026-BCB; ComponentLink1Description: Manufacturer URL; ComponentLink1URL: http://www.freescale.com/
footprint 824D-02_N (Thin QFP, 44-Leads, Body 10x10mm, Pitch 0.8mm, IPC Medium Density)
footprint 824D-02_L (Thin QFP, 44-Leads, Body 10x10mm, Pitch 0.8mm, IPC High Density)
footprint 824D-02_M (Thin QFP, 44-Leads, Body 10x10mm, Pitch 0.8mm, IPC Low Density)
part A pins: 1 GPIOB6/RXD0/SDA/CLKIN (io), 2 GPIOB1/~{SS0}/SDA (io), 3 GPIOB7/TXD0/SCL (io), 4 GPIOB5/TA1/FAULT3/CLKIN (io), 5 GPIOA9/FAULT2/TA3/CMPBI1 (io), 6 GPIOA11/CMPBI2 (io), 7 GPIOC4/ANB0/CMPBI3 (io), 8 GPIOC5/ANB1 (io), 9 GPIOC6/ANB2/VREFHB (io), 10 GPIOC7/ANB3/VREFLB (io), 13 GPIOC3/ANA3/VREFLA (io), 14 GPIOC2/ANA2/VREFHA (io), 15 GPIOC1/ANA1 (io), 16 GPIOC0/ANA0/CMPAI3 (io), 19 TCK/GPIOD2 (io), 20 GPIOB10/CMPAO (io), 21 ~{RESET}/GPIOA7 (io), 22 GPIOB3/MOSI0/TA3/PSRC1 (io), 23 GPIOB2/MISO0/TA2/PSRC0 (io), 24 GPIOA6/FAULT0/TA0 (io), 25 GPIOA10/CMPAI2 (io), 26 GPIOA8/FAULTA1/TA2/CMPAI1 (io), 27 GPIOA5/PWM5/TA3/FAULTA2 (io), 30 GPIOB0/SCLK0/SCL (io), 31 GPIOA4/PWM4/TA2/FAULT1 (io), 32 GPIOA2/PWM2 (io), 33 GPIOA3/PWM3 (io), 37 GPIOD5/XTAL/CLKIN (io), 38 GPIOD4/EXTAL (io), 39 GPIOA1/PWM1 (io), 40 GPIOA0/PWM0 (io), 41 TDI/GPIOD0 (io), 42 GPIOB11/CMPBO (io), 43 TMS/GPIOD3 (io), 44 TDO/GPIOD1 (io)
part B pins: 11 VDDA (power), 12 VSSA (power), 17 VSS (power), 18 VCAP (power), 28 VSS (power), 29 VDD (power), 34 VCAP (power), 35 VDD (power), 36 VSS (power)

## MC56F8027MLH
designator U?
16-Bit Digital Signal Controller, 56800E Family, 32MHz, 32KB Program Flash Memory, 4KB RAM, -40°C to 125°C, 64-Pin LQFP; DatasheetVersion: rev7, Jul-2010; PackageVersion: rev6, Mar-2011; PackageReference: 840F-02; PackageDescription: 64-Pin Thin Quad Flat Pack, 10 x 10 mm Body, 0.5 mm Pitch; ComponentLink1Description: Manufacturer URL; ComponentLink1URL: http://www.freescale.com/
footprint 840F-02_N (Thin QFP, 64-Leads, Body 10x10mm, Pitch 0.5mm, IPC Medium Density)
footprint 840F-02_L (Thin QFP, 64-Leads, Body 10x10mm, Pitch 0.5mm, IPC High Density)
footprint 840F-02_M (Thin QFP, 64-Leads, Body 10x10mm, Pitch 0.5mm, IPC Low Density)
part A pins: 1 GPIOB6/RXD0/SDA/CLKIN (io), 2 GPIOB1/~{SS0}/SDA (io), 3 GPIOB7/TXD0/SCL (io), 4 GPIOB5/TA1/FAULT3/CLKIN (io), 5 GPIOA9/FAULT2/TA3/CMPBI1 (io), 6 GPIOA11/TB3/CMPBI2 (io), 9 GPIOC12/ANB4/RXD1 (io), 10 GPIOC4/ANB0/CMPBI3 (io), 11 GPIOC5/ANB1 (io), 12 GPIOC13/ANB5 (io), 13 GPIOC6/ANB2/VREFHB (io), 14 GPIOC7/ANB3/VREFLB (io), 15 GPIOD7/DAC1 (io), 18 GPIOD6/DAC0 (io), 19 GPIOC3/ANA3/VREFLA (io), 20 GPIOC2/ANA2/VREFHA (io), 21 GPIOC9/ANA5 (io), 22 GPIOC1/ANA1 (io), 23 GPIOC10/ANA6 (io), 24 GPIOC0/ANA0/CMPAI3 (io), 25 GPIOC11/ANA7 (io), 26 GPIOC8/ANA4/TXD1 (io), 29 TCK/GPIOD2 (io), 30 GPIOB10/TB0/CMPAO (io), 31 ~{RESET}/GPIOA7 (io), 32 GPIOB3/MOSI0/TA3/PSRC1 (io), 33 GPIOB2/MISO0/TA2/PSRC0 (io), 34 GPIOA6/FAULT0/TA0 (io), 35 GPIOA10/TB2/CMPAI2 (io), 36 GPIOA8/FAULT1/TA2/CMPAI1 (io), 37 GPIOA12/SCLK1/TB1/TA1 (io), 38 GPIOB4/~{SS1}/TB0/TA0/PSRC2/CLKO (io), 39 GPIOA5/PWM5/TA3/FAULT2 (io), 42 GPIOB0/SCLK0/SCL (io), 43 GPIOA4/PWM4/TA2/FAULT1 (io), 44 GPIOA13/MISO1/ TB2/TA2 (io), 45 GPIOA14/MOSI1/ TB3/TA3 (io), 46 GPIOB9/SDA/CANRX (io), 47 GPIOA2/PWM2 (io), 48 GPIOA3/PWM3 (io), 52 GPIOD5/XTAL/CLKIN (io), 53 GPIOD4/EXTAL (io), 54 GPIOB8/SCL/CANTX (io), 55 GPIOA1/PWM1 (io), 56 GPIOA0/PWM0 (io), 57 GPIOB12/CANTX (io), 58 GPIOB13/CANRX (io), 59 TDI/GPIOD0 (io), 60 GPIOB11/TB1/CMPBO (io), 61 GPIOC15/ANB7 (io), 62 GPIOC14/ANB6 (io), 63 TMS/GPIOD3 (io), 64 TDO/GPIOD1 (io)
part B pins: 7 VDD (power), 8 VSS (power), 16 VDDA (power), 17 VSSA (power), 27 VSS (power), 28 VCAP (power), 40 VSS (power), 41 VDD (power), 49 VCAP (power), 50 VDD (power), 51 VSS (power)

## MC56F8027VLH
designator U?
16-Bit Digital Signal Controller, 56800E Family, 32MHz, 32KB Program Flash Memory, 4KB RAM, -40°C to 125°C, 64-Pin LQFP; DatasheetVersion: rev7, Jul-2010; PackageVersion: rev6, Mar-2011; PackageReference: 840F-02; PackageDescription: 64-Pin Thin Quad Flat Pack, 10 x 10 mm Body, 0.5 mm Pitch; ComponentLink1Description: Manufacturer URL; ComponentLink1URL: http://www.freescale.com/
footprint 840F-02_N (Thin QFP, 64-Leads, Body 10x10mm, Pitch 0.5mm, IPC Medium Density)
footprint 840F-02_L (Thin QFP, 64-Leads, Body 10x10mm, Pitch 0.5mm, IPC High Density)
footprint 840F-02_M (Thin QFP, 64-Leads, Body 10x10mm, Pitch 0.5mm, IPC Low Density)
part A pins: 1 GPIOB6/RXD0/SDA/CLKIN (io), 2 GPIOB1/~{SS0}/SDA (io), 3 GPIOB7/TXD0/SCL (io), 4 GPIOB5/TA1/FAULT3/CLKIN (io), 5 GPIOA9/FAULT2/TA3/CMPBI1 (io), 6 GPIOA11/TB3/CMPBI2 (io), 9 GPIOC12/ANB4/RXD1 (io), 10 GPIOC4/ANB0/CMPBI3 (io), 11 GPIOC5/ANB1 (io), 12 GPIOC13/ANB5 (io), 13 GPIOC6/ANB2/VREFHB (io), 14 GPIOC7/ANB3/VREFLB (io), 15 GPIOD7/DAC1 (io), 18 GPIOD6/DAC0 (io), 19 GPIOC3/ANA3/VREFLA (io), 20 GPIOC2/ANA2/VREFHA (io), 21 GPIOC9/ANA5 (io), 22 GPIOC1/ANA1 (io), 23 GPIOC10/ANA6 (io), 24 GPIOC0/ANA0/CMPAI3 (io), 25 GPIOC11/ANA7 (io), 26 GPIOC8/ANA4/TXD1 (io), 29 TCK/GPIOD2 (io), 30 GPIOB10/TB0/CMPAO (io), 31 ~{RESET}/GPIOA7 (io), 32 GPIOB3/MOSI0/TA3/PSRC1 (io), 33 GPIOB2/MISO0/TA2/PSRC0 (io), 34 GPIOA6/FAULT0/TA0 (io), 35 GPIOA10/TB2/CMPAI2 (io), 36 GPIOA8/FAULT1/TA2/CMPAI1 (io), 37 GPIOA12/SCLK1/TB1/TA1 (io), 38 GPIOB4/~{SS1}/TB0/TA0/PSRC2/CLKO (io), 39 GPIOA5/PWM5/TA3/FAULT2 (io), 42 GPIOB0/SCLK0/SCL (io), 43 GPIOA4/PWM4/TA2/FAULT1 (io), 44 GPIOA13/MISO1/ TB2/TA2 (io), 45 GPIOA14/MOSI1/ TB3/TA3 (io), 46 GPIOB9/SDA/CANRX (io), 47 GPIOA2/PWM2 (io), 48 GPIOA3/PWM3 (io), 52 GPIOD5/XTAL/CLKIN (io), 53 GPIOD4/EXTAL (io), 54 GPIOB8/SCL/CANTX (io), 55 GPIOA1/PWM1 (io), 56 GPIOA0/PWM0 (io), 57 GPIOB12/CANTX (io), 58 GPIOB13/CANRX (io), 59 TDI/GPIOD0 (io), 60 GPIOB11/TB1/CMPBO (io), 61 GPIOC15/ANB7 (io), 62 GPIOC14/ANB6 (io), 63 TMS/GPIOD3 (io), 64 TDO/GPIOD1 (io)
part B pins: 7 VDD (power), 8 VSS (power), 16 VDDA (power), 17 VSSA (power), 27 VSS (power), 28 VCAP (power), 40 VSS (power), 41 VDD (power), 49 VCAP (power), 50 VDD (power), 51 VSS (power)

## MC56F8033VLC
designator U?
16-Bit Digital Signal Controller, 56800E Family, 32MHz, 64KB Program Flash Memory, 8KB RAM, -40°C to 105°C, 32-Pin LQFP; DatasheetVersion: rev6, Feb-2010; PackageVersion: rev9, Jan-2007; PackageReference: 873A-03; PackageDescription: 32-Pin Thin Quad Flat Pack, 7 x 7 mm Body, 0.8 mm Pitch; ComponentLink1Description: Manufacturer URL; ComponentLink1URL: http://www.freescale.com/
footprint 873A-03_N (Thin QFP, 32-Leads, Body 7x7mm, Pitch 0.8mm, IPC Medium Density)
footprint 873A-03_L (Thin QFP, 32-Leads, Body 7x7mm, Pitch 0.8mm, IPC High Density)
footprint 873A-03_M (Thin QFP, 32-Leads, Body 7x7mm, Pitch 0.8mm, IPC Low Density)
part A pins: 1 GPIOB6/RXD0/SDA/CLKIN (io), 2 GPIOB1/~{SS0}/SDA (io), 3 GPIOB7/TXD0/SCL (io), 4 GPIOB5/TA1/FAULT3/CLKIN (io), 5 GPIOC4/ANB0/CMPBI3 (io), 6 GPIOC5/ANB1 (io), 7 GPIOC6/ANB2/VREFHB (io), 10 GPIOC2/ANA2/VREFHA (io), 11 GPIOC1/ANA1 (io), 12 GPIOC0/ANA0/CMPAI3 (io), 14 TCK/GPIOD2 (io), 15 ~{RESET}/GPIOA7 (io), 16 GPIOB3/MOSI0/TA3/PSRC1 (io), 17 GPIOB2/MISO0/TA2/PSRC0 (io), 18 GPIOA6/FAULT0/TA0 (io), 19 GPIOB4/TA0/CLKO/PSRC2 (io), 20 GPIOA5/PWM5/TA3/FAULTA2 (io), 21 GPIOB0/SCLK0/SCL (io), 22 GPIOA4/PWM4/TA2/FAULT1 (io), 23 GPIOA2/PWM2 (io), 24 GPIOA3/PWM3 (io), 28 GPIOA1/PWM1 (io), 29 GPIOA0/PWM0 (io), 30 TDI/GPIOD0 (io), 31 TMS/GPIOD3 (io), 32 TDO/GPIOD1 (io)
part B pins: 8 VDDA (power), 9 VSSA (power), 13 VSS (power), 25 VCAP (power), 26 VDD (power), 27 VSS (power)

## MC56F8035VLD
designator U?
16-Bit Digital Signal Controller, 56800E Family, 32MHz, 64KB Program Flash Memory, 8KB RAM, -40°C to 105°C, 44-Pin LQFP; DatasheetVersion: rev6, Feb-2010; PackageVersion: rev3, Jun-2009; PackageReference: 824D-02; PackageDescription: 44-Pin Thin Quad Flat Pack, 10 x 10 mm Body, 0.8 mm Pitch; Code_JEDEC: MS-026-BCB; ComponentLink1Description: Manufacturer URL; ComponentLink1URL: http://www.freescale.com/
footprint 824D-02_N (Thin QFP, 44-Leads, Body 10x10mm, Pitch 0.8mm, IPC Medium Density)
footprint 824D-02_L (Thin QFP, 44-Leads, Body 10x10mm, Pitch 0.8mm, IPC High Density)
footprint 824D-02_M (Thin QFP, 44-Leads, Body 10x10mm, Pitch 0.8mm, IPC Low Density)
part A pins: 1 GPIOB6/RXD0/SDA/CLKIN (io), 2 GPIOB1/~{SS0}/SDA (io), 3 GPIOB7/TXD0/SCL (io), 4 GPIOB5/TA1/FAULT3/CLKIN (io), 5 GPIOA9/FAULT2/TA3/CMPBI1 (io), 6 GPIOA11/CMPBI2 (io), 7 GPIOC4/ANB0/CMPBI3 (io), 8 GPIOC5/ANB1 (io), 9 GPIOC6/ANB2/VREFHB (io), 10 GPIOC7/ANB3/VREFLB (io), 13 GPIOC3/ANA3/VREFLA (io), 14 GPIOC2/ANA2/VREFHA (io), 15 GPIOC1/ANA1 (io), 16 GPIOC0/ANA0/CMPAI3 (io), 19 TCK/GPIOD2 (io), 20 GPIOB10/CMPAO (io), 21 ~{RESET}/GPIOA7 (io), 22 GPIOB3/MOSI0/TA3/PSRC1 (io), 23 GPIOB2/MISO0/TA2/PSRC0 (io), 24 GPIOA6/FAULT0/TA0 (io), 25 GPIOA10/CMPAI2 (io), 26 GPIOA8/FAULTA1/TA2/CMPAI1 (io), 27 GPIOA5/PWM5/TA3/FAULTA2 (io), 30 GPIOB0/SCLK0/SCL (io), 31 GPIOA4/PWM4/TA2/FAULT1 (io), 32 GPIOA2/PWM2 (io), 33 GPIOA3/PWM3 (io), 37 GPIOD5/XTAL/CLKIN (io), 38 GPIOD4/EXTAL (io), 39 GPIOA1/PWM1 (io), 40 GPIOA0/PWM0 (io), 41 TDI/GPIOD0 (io), 42 GPIOB11/CMPBO (io), 43 TMS/GPIOD3 (io), 44 TDO/GPIOD1 (io)
part B pins: 11 VDDA (power), 12 VSSA (power), 17 VSS (power), 18 VCAP (power), 28 VSS (power), 29 VDD (power), 34 VCAP (power), 35 VDD (power), 36 VSS (power)

## MC56F8036VLF
designator U?
16-Bit Digital Signal Controller, 56800E Family, 32MHz, 64KB Program Flash Memory, 8KB RAM, -40°C to 105°C, 48-Pin LQFP; DatasheetVersion: rev6, Feb-2010; PackageVersion: revG, Apr-2005; PackageReference: 932-03; PackageDescription: LQFP, 48 Lead, 7 x 7 x 1.4mm, 0.5mm Pitch; Code_JEDEC: MS-026-BBC; ComponentLink1Description: Manufacturer URL; ComponentLink1URL: http://www.freescale.com/
footprint 932-03_N (Thin QFP, 48-Leads, Body 7x7mm, Pitch 0.5mm, IPC Medium Density)
footprint 932-03_L (Thin QFP, 48-Leads, Body 7x7mm, Pitch 0.5mm, IPC High Density)
footprint 932-03_M (Thin QFP, 48-Leads, Body 7x7mm, Pitch 0.5mm, IPC Low Density)
part A pins: 1 GPIOB6/RXD0/SDA/CLKIN (io), 2 GPIOB1/~{SS0}/SDA (io), 3 GPIOB7/TXD0/SCL (io), 4 GPIOB5/TA1/FAULT3/CLKIN (io), 5 GPIOA9/FAULT2/TA3/CMPBI1 (io), 6 GPIOA11/CMPBI2 (io), 7 GPIOC12/ANB4 (io), 8 GPIOC4/ANB0/CMPBI3 (io), 9 GPIOC5/ANB1 (io), 10 GPIOC6/ANB2/VREFHB (io), 11 GPIOC7/ANB3/VREFLB (io), 14 GPIOC3/ANA3/VREFLA (io), 15 GPIOC2/ANA2/VREFHB (io), 16 GPIOC1/ANA1 (io), 17 GPIOC0/ANA0/CMPAI3 (io), 18 GPIOC8/ANA4 (io), 21 TCK/GPIOD2 (io), 22 GPIOB10/CMPAO (io), 23 ~{RESET}/GPIOA7 (io), 24 GPIOB3/MOSI0/TA3/PSRC1 (io), 25 GPIOB2/MISO0/TA2/PSRC0 (io), 26 GPIOA6/FAULT0/TA0 (io), 27 GPIOA10/CMPAI2 (io), 28 GPIOA8/FAULTA1/TA2/CMPAI1 (io), 29 GPIOA5/PWM5/TA3/FAULTA2 (io), 32 GPIOB0/SCLK0/SCL (io), 33 GPIOA4/PWM4/TA2/FAULT1 (io), 34 GPIOB9/SDA/CANRX (io), 35 GPIOA2/PWM2 (io), 36 GPIOA3/PWM3 (io), 40 GPIOD5/XTAL/CLKIN (io), 41 GPIOD4/EXTAL (io), 42 GPIOB8/SCL/CANTX (io), 43 GPIOA1/PWM1 (io), 44 GPIOA0/PWM0 (io), 45 TDI/GPIOD0 (io), 46 GPIOB11/CMPBO (io), 47 TMS/GPIOD3 (io), 48 TDO/GPIOD1 (io)
part B pins: 12 VDDA (power), 13 VSSA (power), 19 VSS (power), 20 VCAP (power), 30 VSS (power), 31 VDD (power), 37 VCAP (power), 38 VDD (power), 39 VSS (power)

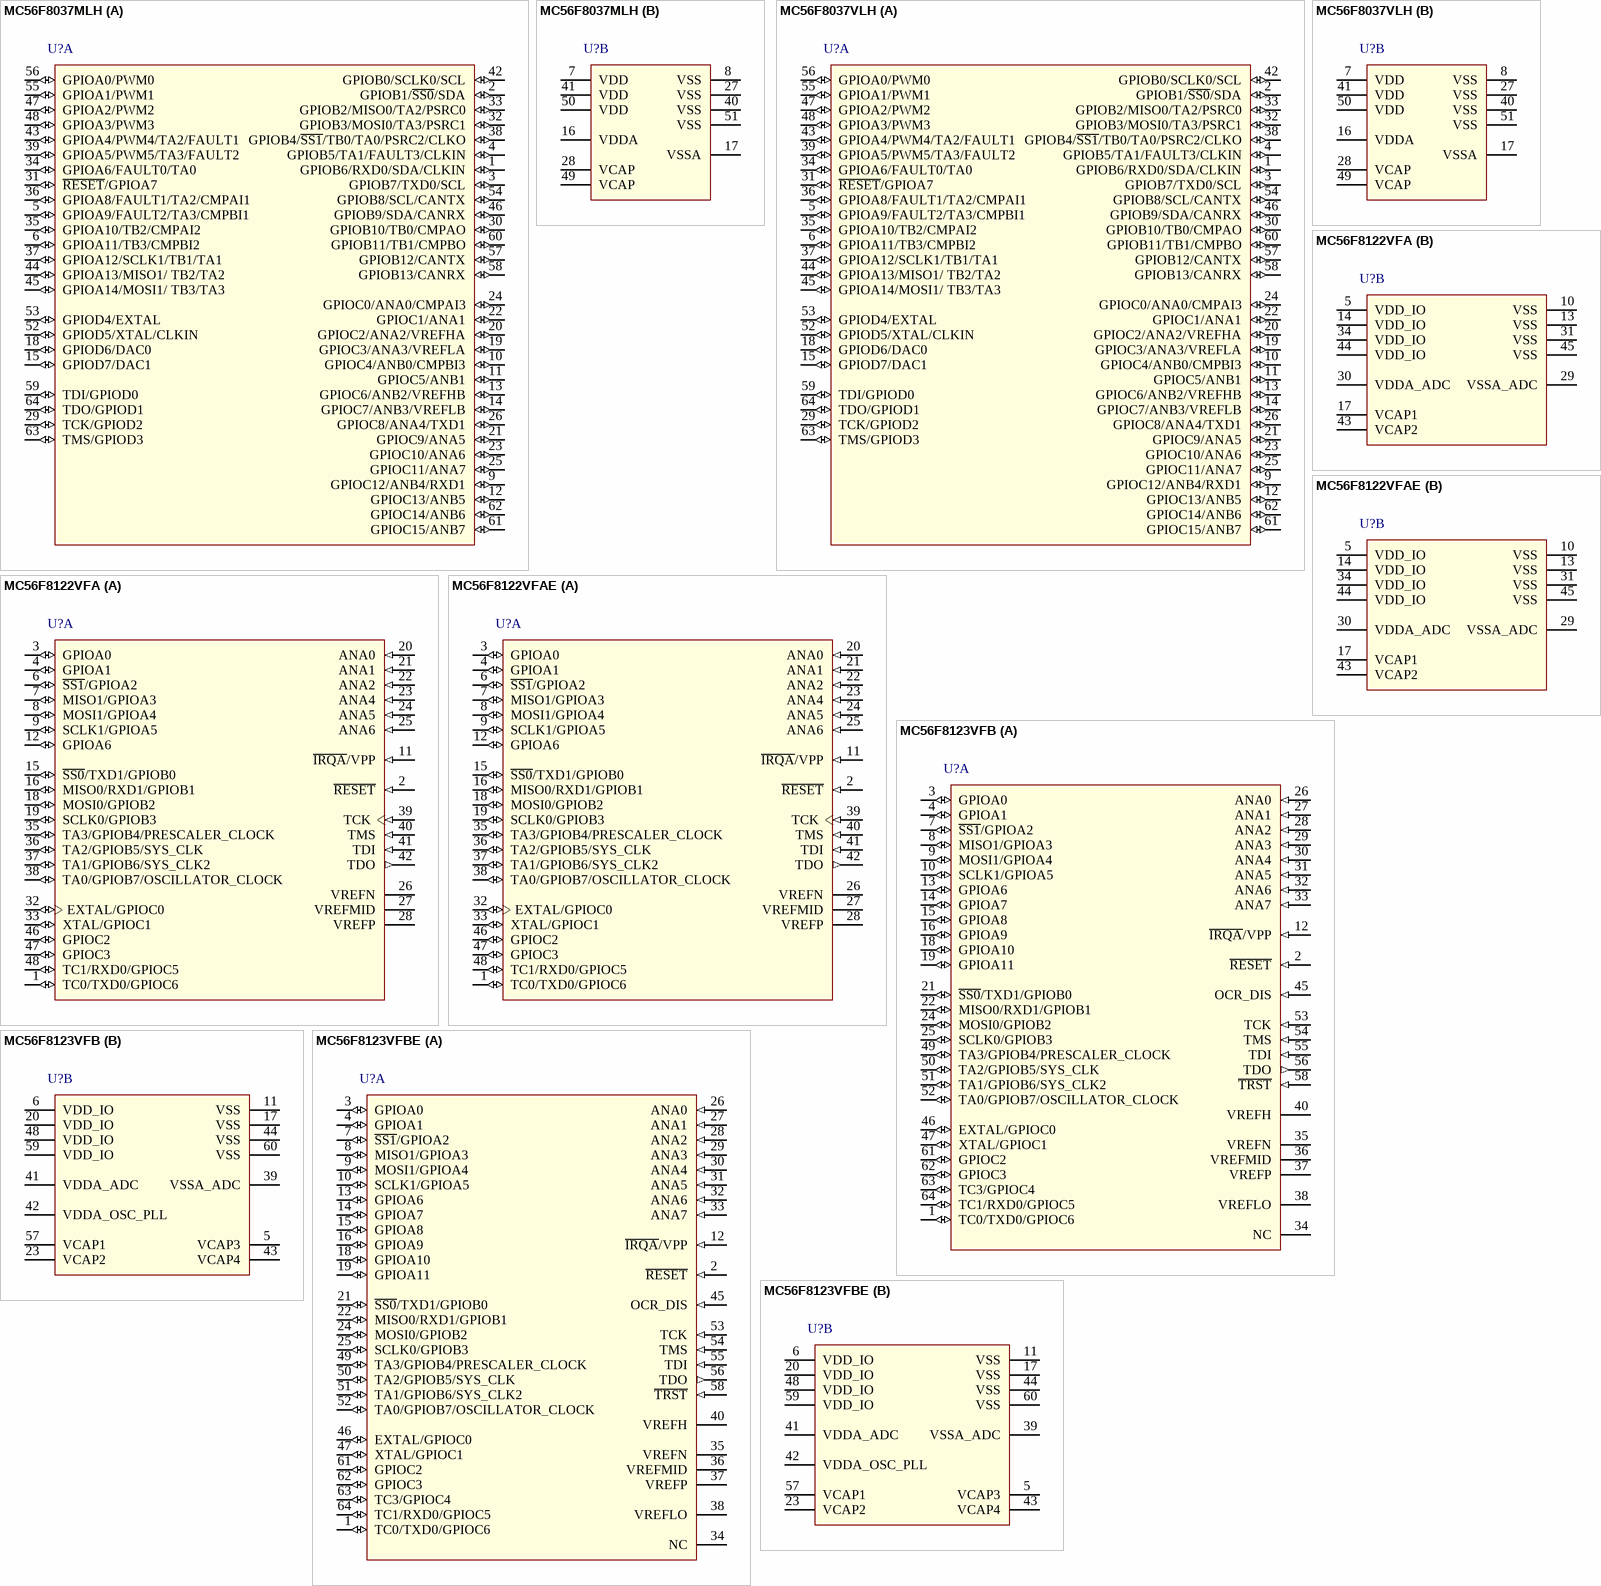
[diagram p10: symbols MC56F8037MLH to MC56F8123VFBE]